# Altium integrated library AD DSP 16-Bit.IntLib: 146 symbols (part 5 of 7)
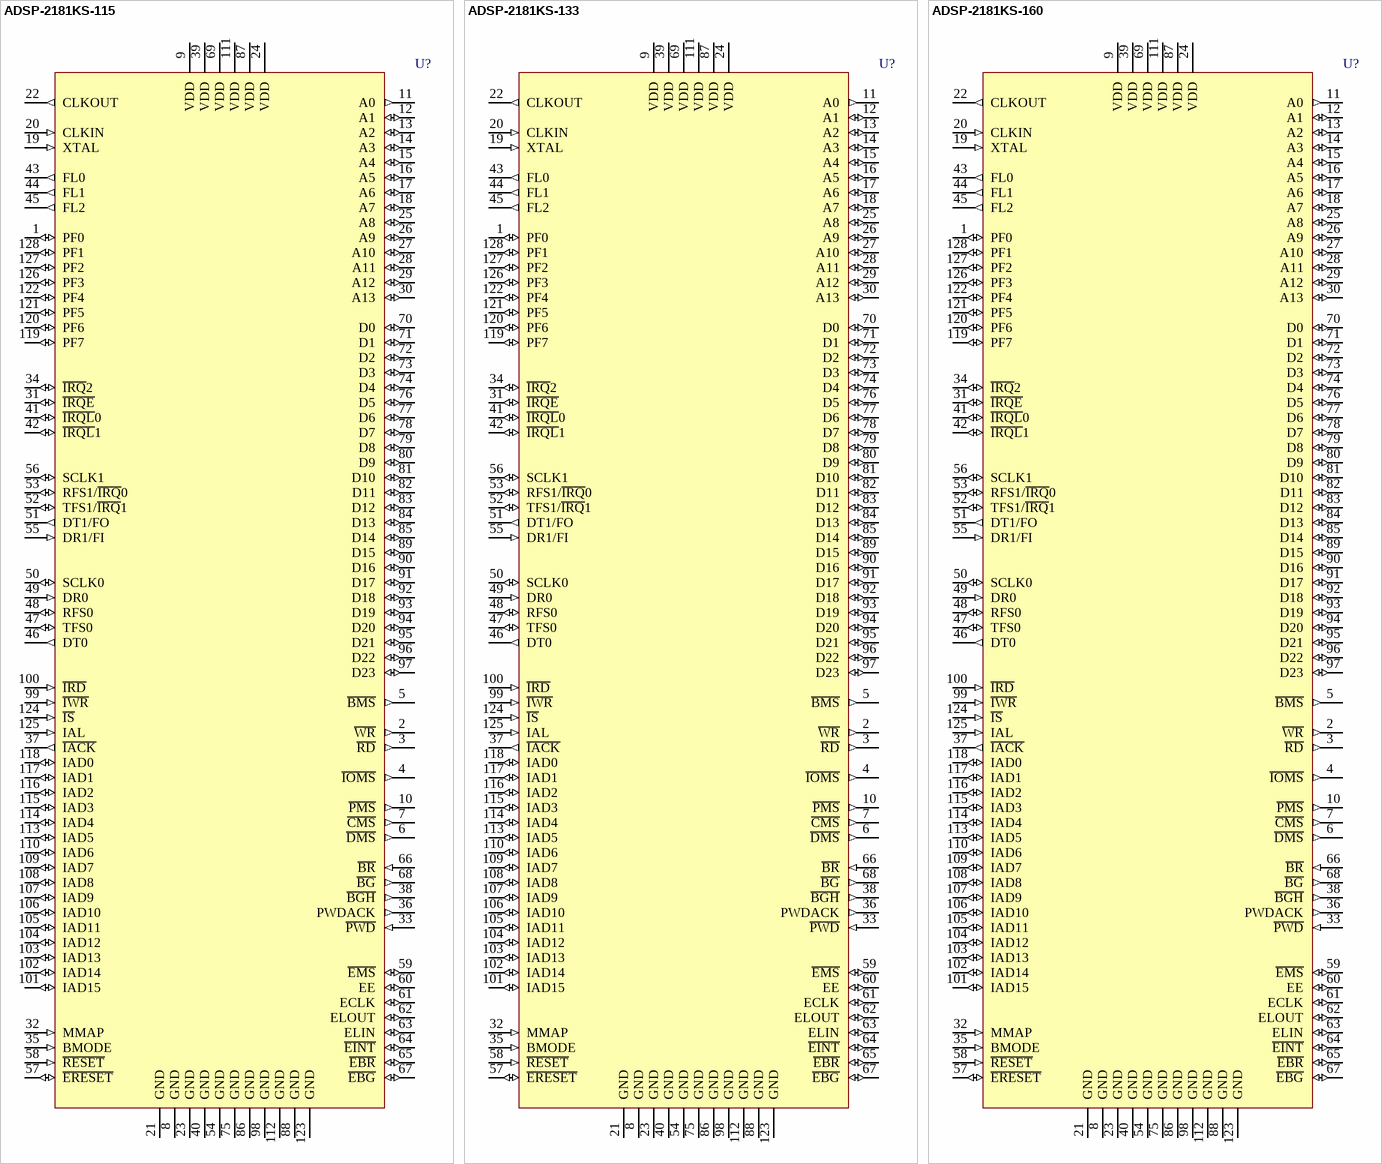
[diagram p49: symbols ADSP-2181KS-115 to ADSP-2181KS-160]

## ADSP-2181KS-115
designator U?
40 MIPS, 5V, 2 Serial Ports, Host Port, 80 KB RAM; Published: 24-Aug-2001; LatestRevisionDate: 13-Apr-2006; LatestRevisionNote: IPC-7351 Footprint Added.; DatasheetVersion: 1998; PackageVersion: 2000; PackageReference: S-128; Publisher: Altium Limited; PackageDescription: 128-Pin Quad Flat Pack 0.8 mm Pitch; Code_IPC: QFP80P3120X3120-128; ComponentLink1Description: Manufacturer Link; ComponentLink1URL: http://www.analog.com/; ComponentLink2Description: Datasheet; ComponentLink2URL: http://www.analog.com/UploadedFiles/Data_Sheets/505104853ADSP2181_d.pdf
footprint S-128_N (QFP, 128-Leads, Body 28x28mm, Pitch 0.8mm, IPC Medium Density)
footprint S-128_L (QFP, 128-Leads, Body 28x28mm, Pitch 0.8mm, IPC High Density)
footprint S-128_M (QFP, 128-Leads, Body 28x28mm, Pitch 0.8mm, IPC Low Density)
3D model 2181-S128 (128-Pin Quad Flat Pack 0.8 mm Pitch)
pins: 1 PF0 (io), 2 ~{WR} (out), 3 ~{RD} (out), 4 ~{IOMS} (out), 5 ~{BMS} (out), 6 ~{DMS} (out), 7 ~{CMS} (out), 8 GND (power), 9 VDD (power), 10 ~{PMS} (out), 11 A0 (out), 12 A1 (io), 13 A2 (io), 14 A3 (io), 15 A4 (io), 16 A5 (io), 17 A6 (io), 18 A7 (io), 19 XTAL (in), 20 CLKIN (in), 21 GND (power), 22 CLKOUT (out), 23 GND (power), 24 VDD (power), 25 A8 (io), 26 A9 (io), 27 A10 (io), 28 A11 (io), 29 A12 (io), 30 A13 (io), 31 ~{IRQE} (io), 32 MMAP (in), 33 ~{PWD} (in), 34 ~{IRQ}2 (io), 35 BMODE (in), 36 PWDACK (out), 37 ~{IACK} (out), 38 ~{BGH} (out), 39 VDD (power), 40 GND (power), 41 ~{IRQL}0 (io), 42 ~{IRQL}1 (io), 43 FL0 (out), 44 FL1 (out), 45 FL2 (out), 46 DT0 (out), 47 TFS0 (io), 48 RFS0 (io), 49 DR0 (in), 50 SCLK0 (io), 51 DT1/FO (out), 52 TFS1/~{IRQ}1 (io), 53 RFS1/~{IRQ}0 (io), 54 GND (power), 55 DR1/FI (in), 56 SCLK1 (io), 57 ~{ERESET} (io), 58 ~{RESET} (in), 59 ~{EMS} (io), 60 EE (io), 61 ECLK (io), 62 ELOUT (io), 63 ELIN (io), 64 ~{EINT} (io), 65 ~{EBR} (io), 66 ~{BR} (in), 67 ~{EBG} (io), 68 ~{BG} (out), 69 VDD (power), 70 D0 (io), 71 D1 (io), 72 D2 (io), 73 D3 (io), 74 D4 (io), 75 GND (power), 76 D5 (io), 77 D6 (io), 78 D7 (io), 79 D8 (io), 80 D9 (io), 81 D10 (io), 82 D11 (io), 83 D12 (io), 84 D13 (io), 85 D14 (io), 86 GND (power), 87 VDD (power), 88 GND (power), 89 D15 (io), 90 D16 (io), 91 D17 (io), 92 D18 (io), 93 D19 (io), 94 D20 (io), 95 D21 (io), 96 D22 (io), 97 D23 (io), 98 GND (power), 99 ~{IWR} (in), 100 ~{IRD} (in), 101 IAD15 (io), 102 IAD14 (io), 103 IAD13 (io), 104 IAD12 (io), 105 IAD11 (io), 106 IAD10 (io), 107 IAD9 (io), 108 IAD8 (io), 109 IAD7 (io), 110 IAD6 (io), 111 VDD (power), 112 GND (power), 113 IAD5 (io), 114 IAD4 (io), 115 IAD3 (io), 116 IAD2 (io), 117 IAD1 (io), 118 IAD0 (io), 119 PF7 (io), 120 PF6 (io), 121 PF5 (io), 122 PF4 (io), 123 GND (power), 124 ~{IS} (in), 125 IAL (in), 126 PF3 (io), 127 PF2 (io), 128 PF1 (io)

## ADSP-2181KS-133
designator U?
40 MIPS, 5V, 2 Serial Ports, Host Port, 80 KB RAM; Published: 24-Aug-2001; LatestRevisionDate: 13-Apr-2006; LatestRevisionNote: IPC-7351 Footprint Added.; DatasheetVersion: 1998; PackageVersion: 2000; PackageReference: S-128; Publisher: Altium Limited; PackageDescription: 128-Pin Quad Flat Pack 0.8 mm Pitch; Code_IPC: QFP80P3120X3120-128; ComponentLink1Description: Manufacturer Link; ComponentLink1URL: http://www.analog.com/; ComponentLink2Description: Datasheet; ComponentLink2URL: http://www.analog.com/UploadedFiles/Data_Sheets/505104853ADSP2181_d.pdf
footprint S-128_N (QFP, 128-Leads, Body 28x28mm, Pitch 0.8mm, IPC Medium Density)
footprint S-128_L (QFP, 128-Leads, Body 28x28mm, Pitch 0.8mm, IPC High Density)
footprint S-128_M (QFP, 128-Leads, Body 28x28mm, Pitch 0.8mm, IPC Low Density)
3D model 2181-S128 (128-Pin Quad Flat Pack 0.8 mm Pitch)
pins: 1 PF0 (io), 2 ~{WR} (out), 3 ~{RD} (out), 4 ~{IOMS} (out), 5 ~{BMS} (out), 6 ~{DMS} (out), 7 ~{CMS} (out), 8 GND (power), 9 VDD (power), 10 ~{PMS} (out), 11 A0 (out), 12 A1 (io), 13 A2 (io), 14 A3 (io), 15 A4 (io), 16 A5 (io), 17 A6 (io), 18 A7 (io), 19 XTAL (in), 20 CLKIN (in), 21 GND (power), 22 CLKOUT (out), 23 GND (power), 24 VDD (power), 25 A8 (io), 26 A9 (io), 27 A10 (io), 28 A11 (io), 29 A12 (io), 30 A13 (io), 31 ~{IRQE} (io), 32 MMAP (in), 33 ~{PWD} (in), 34 ~{IRQ}2 (io), 35 BMODE (in), 36 PWDACK (out), 37 ~{IACK} (out), 38 ~{BGH} (out), 39 VDD (power), 40 GND (power), 41 ~{IRQL}0 (io), 42 ~{IRQL}1 (io), 43 FL0 (out), 44 FL1 (out), 45 FL2 (out), 46 DT0 (out), 47 TFS0 (io), 48 RFS0 (io), 49 DR0 (in), 50 SCLK0 (io), 51 DT1/FO (out), 52 TFS1/~{IRQ}1 (io), 53 RFS1/~{IRQ}0 (io), 54 GND (power), 55 DR1/FI (in), 56 SCLK1 (io), 57 ~{ERESET} (io), 58 ~{RESET} (in), 59 ~{EMS} (io), 60 EE (io), 61 ECLK (io), 62 ELOUT (io), 63 ELIN (io), 64 ~{EINT} (io), 65 ~{EBR} (io), 66 ~{BR} (in), 67 ~{EBG} (io), 68 ~{BG} (out), 69 VDD (power), 70 D0 (io), 71 D1 (io), 72 D2 (io), 73 D3 (io), 74 D4 (io), 75 GND (power), 76 D5 (io), 77 D6 (io), 78 D7 (io), 79 D8 (io), 80 D9 (io), 81 D10 (io), 82 D11 (io), 83 D12 (io), 84 D13 (io), 85 D14 (io), 86 GND (power), 87 VDD (power), 88 GND (power), 89 D15 (io), 90 D16 (io), 91 D17 (io), 92 D18 (io), 93 D19 (io), 94 D20 (io), 95 D21 (io), 96 D22 (io), 97 D23 (io), 98 GND (power), 99 ~{IWR} (in), 100 ~{IRD} (in), 101 IAD15 (io), 102 IAD14 (io), 103 IAD13 (io), 104 IAD12 (io), 105 IAD11 (io), 106 IAD10 (io), 107 IAD9 (io), 108 IAD8 (io), 109 IAD7 (io), 110 IAD6 (io), 111 VDD (power), 112 GND (power), 113 IAD5 (io), 114 IAD4 (io), 115 IAD3 (io), 116 IAD2 (io), 117 IAD1 (io), 118 IAD0 (io), 119 PF7 (io), 120 PF6 (io), 121 PF5 (io), 122 PF4 (io), 123 GND (power), 124 ~{IS} (in), 125 IAL (in), 126 PF3 (io), 127 PF2 (io), 128 PF1 (io)

## ADSP-2181KS-160
designator U?
40 MIPS, 5V, 2 Serial Ports, Host Port, 80 KB RAM; Published: 24-Aug-2001; LatestRevisionDate: 13-Apr-2006; LatestRevisionNote: IPC-7351 Footprint Added.; DatasheetVersion: 1998; PackageVersion: 2000; PackageReference: S-128; Publisher: Altium Limited; PackageDescription: 128-Pin Quad Flat Pack 0.8 mm Pitch; Code_IPC: QFP80P3120X3120-128; ComponentLink1Description: Manufacturer Link; ComponentLink1URL: http://www.analog.com/; ComponentLink2Description: Datasheet; ComponentLink2URL: http://www.analog.com/UploadedFiles/Data_Sheets/505104853ADSP2181_d.pdf
footprint S-128_N (QFP, 128-Leads, Body 28x28mm, Pitch 0.8mm, IPC Medium Density)
footprint S-128_L (QFP, 128-Leads, Body 28x28mm, Pitch 0.8mm, IPC High Density)
footprint S-128_M (QFP, 128-Leads, Body 28x28mm, Pitch 0.8mm, IPC Low Density)
3D model 2181-S128 (128-Pin Quad Flat Pack 0.8 mm Pitch)
pins: 1 PF0 (io), 2 ~{WR} (out), 3 ~{RD} (out), 4 ~{IOMS} (out), 5 ~{BMS} (out), 6 ~{DMS} (out), 7 ~{CMS} (out), 8 GND (power), 9 VDD (power), 10 ~{PMS} (out), 11 A0 (out), 12 A1 (io), 13 A2 (io), 14 A3 (io), 15 A4 (io), 16 A5 (io), 17 A6 (io), 18 A7 (io), 19 XTAL (in), 20 CLKIN (in), 21 GND (power), 22 CLKOUT (out), 23 GND (power), 24 VDD (power), 25 A8 (io), 26 A9 (io), 27 A10 (io), 28 A11 (io), 29 A12 (io), 30 A13 (io), 31 ~{IRQE} (io), 32 MMAP (in), 33 ~{PWD} (in), 34 ~{IRQ}2 (io), 35 BMODE (in), 36 PWDACK (out), 37 ~{IACK} (out), 38 ~{BGH} (out), 39 VDD (power), 40 GND (power), 41 ~{IRQL}0 (io), 42 ~{IRQL}1 (io), 43 FL0 (out), 44 FL1 (out), 45 FL2 (out), 46 DT0 (out), 47 TFS0 (io), 48 RFS0 (io), 49 DR0 (in), 50 SCLK0 (io), 51 DT1/FO (out), 52 TFS1/~{IRQ}1 (io), 53 RFS1/~{IRQ}0 (io), 54 GND (power), 55 DR1/FI (in), 56 SCLK1 (io), 57 ~{ERESET} (io), 58 ~{RESET} (in), 59 ~{EMS} (io), 60 EE (io), 61 ECLK (io), 62 ELOUT (io), 63 ELIN (io), 64 ~{EINT} (io), 65 ~{EBR} (io), 66 ~{BR} (in), 67 ~{EBG} (io), 68 ~{BG} (out), 69 VDD (power), 70 D0 (io), 71 D1 (io), 72 D2 (io), 73 D3 (io), 74 D4 (io), 75 GND (power), 76 D5 (io), 77 D6 (io), 78 D7 (io), 79 D8 (io), 80 D9 (io), 81 D10 (io), 82 D11 (io), 83 D12 (io), 84 D13 (io), 85 D14 (io), 86 GND (power), 87 VDD (power), 88 GND (power), 89 D15 (io), 90 D16 (io), 91 D17 (io), 92 D18 (io), 93 D19 (io), 94 D20 (io), 95 D21 (io), 96 D22 (io), 97 D23 (io), 98 GND (power), 99 ~{IWR} (in), 100 ~{IRD} (in), 101 IAD15 (io), 102 IAD14 (io), 103 IAD13 (io), 104 IAD12 (io), 105 IAD11 (io), 106 IAD10 (io), 107 IAD9 (io), 108 IAD8 (io), 109 IAD7 (io), 110 IAD6 (io), 111 VDD (power), 112 GND (power), 113 IAD5 (io), 114 IAD4 (io), 115 IAD3 (io), 116 IAD2 (io), 117 IAD1 (io), 118 IAD0 (io), 119 PF7 (io), 120 PF6 (io), 121 PF5 (io), 122 PF4 (io), 123 GND (power), 124 ~{IS} (in), 125 IAL (in), 126 PF3 (io), 127 PF2 (io), 128 PF1 (io)

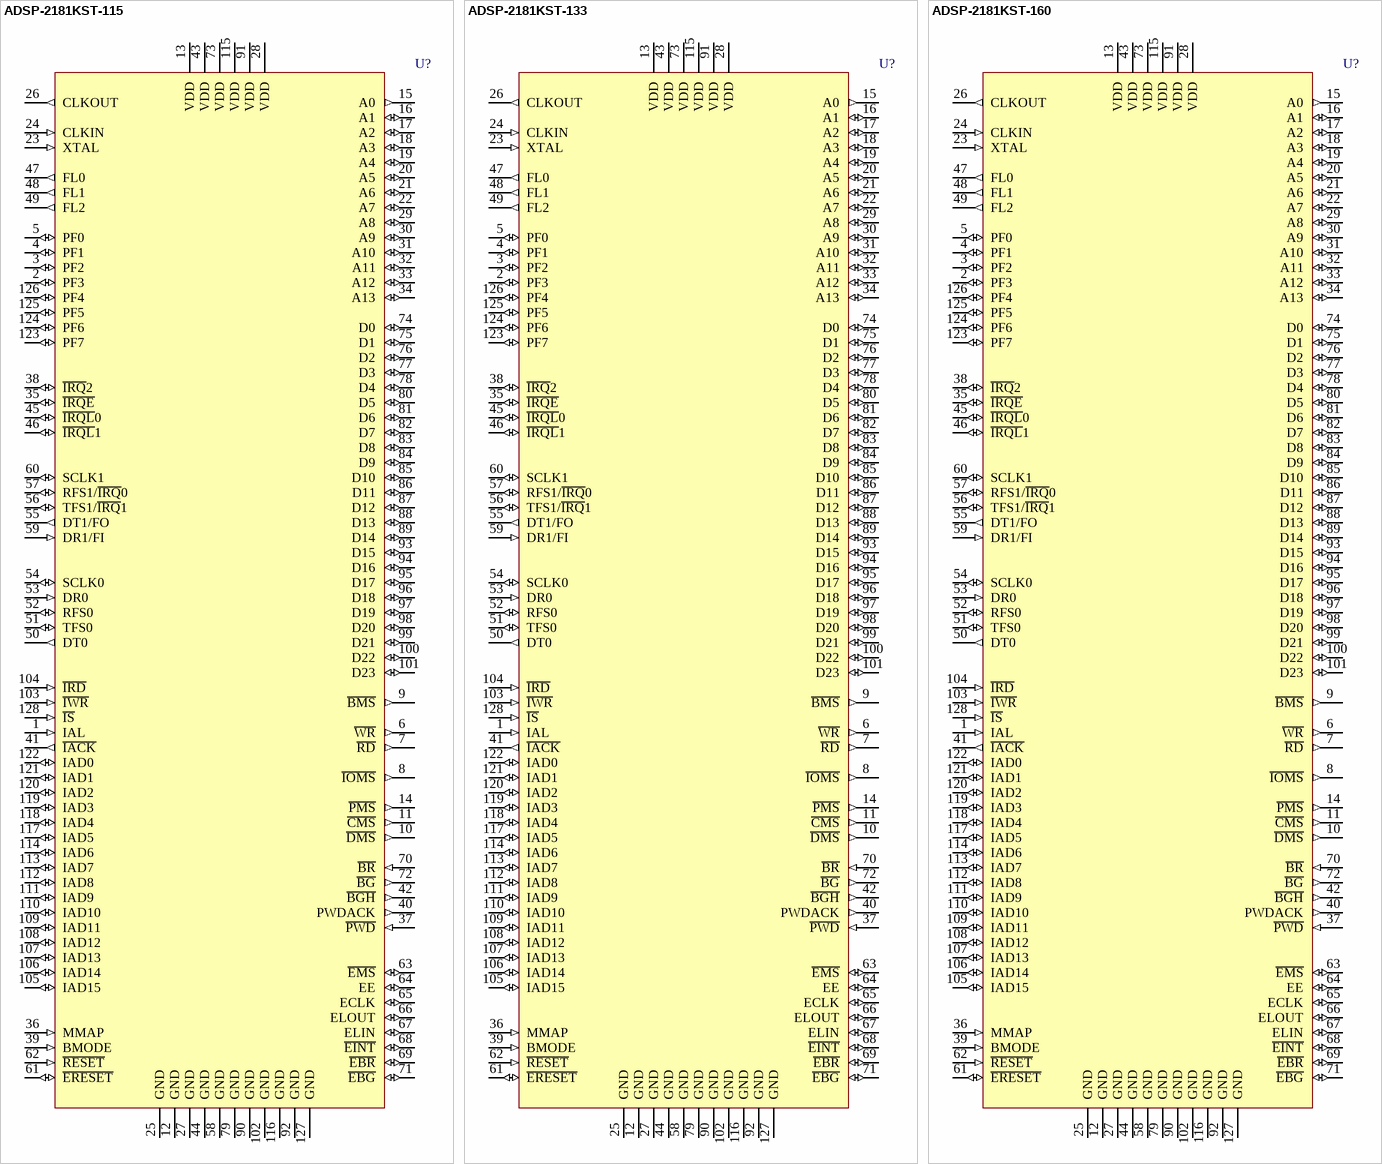
[diagram p27: symbols ADSP-2181KST-115 to ADSP-2181KST-160]

## ADSP-2181KST-115
designator U?
40 MIPS, 5V, 2 Serial Ports, Host Port, 80 KB RAM; Published: 24-Aug-2001; LatestRevisionDate: 13-Apr-2006; LatestRevisionNote: IPC-7351 Footprint Added.; DatasheetVersion: 1998; PackageVersion: 2000; PackageReference: ST-128; Publisher: Altium Limited; PackageDescription: 128-Pin Thin Quad Flat Pack Rectangular 0.5 mm Pitch; ComponentLink1Description: Manufacturer Link; ComponentLink1URL: http://www.analog.com/; ComponentLink2Description: Datasheet; ComponentLink2URL: http://www.analog.com/UploadedFiles/Data_Sheets/505104853ADSP2181_d.pdf
footprint ST-128_N (Thin QFP, 128-Leads, Body 20x14 mm, Pitch 0.5mm, IPC Medium Density)
footprint ST-128_L (Thin QFP, 128-Leads, Body 20x14 mm, Pitch 0.5mm, IPC High Density)
footprint ST-128_M (Thin QFP, 128-Leads, Body 20x14 mm, Pitch 0.5mm, IPC Low Density)
3D model 2181-ST128 (128-Pin Thin Quad Flat Pack Rectangular 0.5 mm Pitch)
pins: 1 IAL (in), 2 PF3 (io), 3 PF2 (io), 4 PF1 (io), 5 PF0 (io), 6 ~{WR} (out), 7 ~{RD} (out), 8 ~{IOMS} (out), 9 ~{BMS} (out), 10 ~{DMS} (out), 11 ~{CMS} (out), 12 GND (power), 13 VDD (power), 14 ~{PMS} (out), 15 A0 (out), 16 A1 (io), 17 A2 (io), 18 A3 (io), 19 A4 (io), 20 A5 (io), 21 A6 (io), 22 A7 (io), 23 XTAL (in), 24 CLKIN (in), 25 GND (power), 26 CLKOUT (out), 27 GND (power), 28 VDD (power), 29 A8 (io), 30 A9 (io), 31 A10 (io), 32 A11 (io), 33 A12 (io), 34 A13 (io), 35 ~{IRQE} (io), 36 MMAP (in), 37 ~{PWD} (in), 38 ~{IRQ}2 (io), 39 BMODE (in), 40 PWDACK (out), 41 ~{IACK} (out), 42 ~{BGH} (out), 43 VDD (power), 44 GND (power), 45 ~{IRQL}0 (io), 46 ~{IRQL}1 (io), 47 FL0 (out), 48 FL1 (out), 49 FL2 (out), 50 DT0 (out), 51 TFS0 (io), 52 RFS0 (io), 53 DR0 (in), 54 SCLK0 (io), 55 DT1/FO (out), 56 TFS1/~{IRQ}1 (io), 57 RFS1/~{IRQ}0 (io), 58 GND (power), 59 DR1/FI (in), 60 SCLK1 (io), 61 ~{ERESET} (io), 62 ~{RESET} (in), 63 ~{EMS} (io), 64 EE (io), 65 ECLK (io), 66 ELOUT (io), 67 ELIN (io), 68 ~{EINT} (io), 69 ~{EBR} (io), 70 ~{BR} (in), 71 ~{EBG} (io), 72 ~{BG} (out), 73 VDD (power), 74 D0 (io), 75 D1 (io), 76 D2 (io), 77 D3 (io), 78 D4 (io), 79 GND (power), 80 D5 (io), 81 D6 (io), 82 D7 (io), 83 D8 (io), 84 D9 (io), 85 D10 (io), 86 D11 (io), 87 D12 (io), 88 D13 (io), 89 D14 (io), 90 GND (power), 91 VDD (power), 92 GND (power), 93 D15 (io), 94 D16 (io), 95 D17 (io), 96 D18 (io), 97 D19 (io), 98 D20 (io), 99 D21 (io), 100 D22 (io), 101 D23 (io), 102 GND (power), 103 ~{IWR} (in), 104 ~{IRD} (in), 105 IAD15 (io), 106 IAD14 (io), 107 IAD13 (io), 108 IAD12 (io), 109 IAD11 (io), 110 IAD10 (io), 111 IAD9 (io), 112 IAD8 (io), 113 IAD7 (io), 114 IAD6 (io), 115 VDD (power), 116 GND (power), 117 IAD5 (io), 118 IAD4 (io), 119 IAD3 (io), 120 IAD2 (io), 121 IAD1 (io), 122 IAD0 (io), 123 PF7 (io), 124 PF6 (io), 125 PF5 (io), 126 PF4 (io), 127 GND (power), 128 ~{IS} (in)

## ADSP-2181KST-133
designator U?
40 MIPS, 5V, 2 Serial Ports, Host Port, 80 KB RAM; Published: 24-Aug-2001; LatestRevisionDate: 13-Apr-2006; LatestRevisionNote: IPC-7351 Footprint Added.; DatasheetVersion: 1998; PackageVersion: 2000; PackageReference: ST-128; Publisher: Altium Limited; PackageDescription: 128-Pin Thin Quad Flat Pack Rectangular 0.5 mm Pitch; ComponentLink1Description: Manufacturer Link; ComponentLink1URL: http://www.analog.com/; ComponentLink2Description: Datasheet; ComponentLink2URL: http://www.analog.com/UploadedFiles/Data_Sheets/505104853ADSP2181_d.pdf
footprint ST-128_N (Thin QFP, 128-Leads, Body 20x14 mm, Pitch 0.5mm, IPC Medium Density)
footprint ST-128_L (Thin QFP, 128-Leads, Body 20x14 mm, Pitch 0.5mm, IPC High Density)
footprint ST-128_M (Thin QFP, 128-Leads, Body 20x14 mm, Pitch 0.5mm, IPC Low Density)
3D model 2181-ST128 (128-Pin Thin Quad Flat Pack Rectangular 0.5 mm Pitch)
pins: 1 IAL (in), 2 PF3 (io), 3 PF2 (io), 4 PF1 (io), 5 PF0 (io), 6 ~{WR} (out), 7 ~{RD} (out), 8 ~{IOMS} (out), 9 ~{BMS} (out), 10 ~{DMS} (out), 11 ~{CMS} (out), 12 GND (power), 13 VDD (power), 14 ~{PMS} (out), 15 A0 (out), 16 A1 (io), 17 A2 (io), 18 A3 (io), 19 A4 (io), 20 A5 (io), 21 A6 (io), 22 A7 (io), 23 XTAL (in), 24 CLKIN (in), 25 GND (power), 26 CLKOUT (out), 27 GND (power), 28 VDD (power), 29 A8 (io), 30 A9 (io), 31 A10 (io), 32 A11 (io), 33 A12 (io), 34 A13 (io), 35 ~{IRQE} (io), 36 MMAP (in), 37 ~{PWD} (in), 38 ~{IRQ}2 (io), 39 BMODE (in), 40 PWDACK (out), 41 ~{IACK} (out), 42 ~{BGH} (out), 43 VDD (power), 44 GND (power), 45 ~{IRQL}0 (io), 46 ~{IRQL}1 (io), 47 FL0 (out), 48 FL1 (out), 49 FL2 (out), 50 DT0 (out), 51 TFS0 (io), 52 RFS0 (io), 53 DR0 (in), 54 SCLK0 (io), 55 DT1/FO (out), 56 TFS1/~{IRQ}1 (io), 57 RFS1/~{IRQ}0 (io), 58 GND (power), 59 DR1/FI (in), 60 SCLK1 (io), 61 ~{ERESET} (io), 62 ~{RESET} (in), 63 ~{EMS} (io), 64 EE (io), 65 ECLK (io), 66 ELOUT (io), 67 ELIN (io), 68 ~{EINT} (io), 69 ~{EBR} (io), 70 ~{BR} (in), 71 ~{EBG} (io), 72 ~{BG} (out), 73 VDD (power), 74 D0 (io), 75 D1 (io), 76 D2 (io), 77 D3 (io), 78 D4 (io), 79 GND (power), 80 D5 (io), 81 D6 (io), 82 D7 (io), 83 D8 (io), 84 D9 (io), 85 D10 (io), 86 D11 (io), 87 D12 (io), 88 D13 (io), 89 D14 (io), 90 GND (power), 91 VDD (power), 92 GND (power), 93 D15 (io), 94 D16 (io), 95 D17 (io), 96 D18 (io), 97 D19 (io), 98 D20 (io), 99 D21 (io), 100 D22 (io), 101 D23 (io), 102 GND (power), 103 ~{IWR} (in), 104 ~{IRD} (in), 105 IAD15 (io), 106 IAD14 (io), 107 IAD13 (io), 108 IAD12 (io), 109 IAD11 (io), 110 IAD10 (io), 111 IAD9 (io), 112 IAD8 (io), 113 IAD7 (io), 114 IAD6 (io), 115 VDD (power), 116 GND (power), 117 IAD5 (io), 118 IAD4 (io), 119 IAD3 (io), 120 IAD2 (io), 121 IAD1 (io), 122 IAD0 (io), 123 PF7 (io), 124 PF6 (io), 125 PF5 (io), 126 PF4 (io), 127 GND (power), 128 ~{IS} (in)

## ADSP-2181KST-160
designator U?
40 MIPS, 5V, 2 Serial Ports, Host Port, 80 KB RAM; Published: 24-Aug-2001; LatestRevisionDate: 13-Apr-2006; LatestRevisionNote: IPC-7351 Footprint Added.; DatasheetVersion: 1998; PackageVersion: 2000; PackageReference: ST-128; Publisher: Altium Limited; PackageDescription: 128-Pin Thin Quad Flat Pack Rectangular 0.5 mm Pitch; ComponentLink1Description: Manufacturer Link; ComponentLink1URL: http://www.analog.com/; ComponentLink2Description: Datasheet; ComponentLink2URL: http://www.analog.com/UploadedFiles/Data_Sheets/505104853ADSP2181_d.pdf
footprint ST-128_N (Thin QFP, 128-Leads, Body 20x14 mm, Pitch 0.5mm, IPC Medium Density)
footprint ST-128_L (Thin QFP, 128-Leads, Body 20x14 mm, Pitch 0.5mm, IPC High Density)
footprint ST-128_M (Thin QFP, 128-Leads, Body 20x14 mm, Pitch 0.5mm, IPC Low Density)
3D model 2181-ST128 (128-Pin Thin Quad Flat Pack Rectangular 0.5 mm Pitch)
pins: 1 IAL (in), 2 PF3 (io), 3 PF2 (io), 4 PF1 (io), 5 PF0 (io), 6 ~{WR} (out), 7 ~{RD} (out), 8 ~{IOMS} (out), 9 ~{BMS} (out), 10 ~{DMS} (out), 11 ~{CMS} (out), 12 GND (power), 13 VDD (power), 14 ~{PMS} (out), 15 A0 (out), 16 A1 (io), 17 A2 (io), 18 A3 (io), 19 A4 (io), 20 A5 (io), 21 A6 (io), 22 A7 (io), 23 XTAL (in), 24 CLKIN (in), 25 GND (power), 26 CLKOUT (out), 27 GND (power), 28 VDD (power), 29 A8 (io), 30 A9 (io), 31 A10 (io), 32 A11 (io), 33 A12 (io), 34 A13 (io), 35 ~{IRQE} (io), 36 MMAP (in), 37 ~{PWD} (in), 38 ~{IRQ}2 (io), 39 BMODE (in), 40 PWDACK (out), 41 ~{IACK} (out), 42 ~{BGH} (out), 43 VDD (power), 44 GND (power), 45 ~{IRQL}0 (io), 46 ~{IRQL}1 (io), 47 FL0 (out), 48 FL1 (out), 49 FL2 (out), 50 DT0 (out), 51 TFS0 (io), 52 RFS0 (io), 53 DR0 (in), 54 SCLK0 (io), 55 DT1/FO (out), 56 TFS1/~{IRQ}1 (io), 57 RFS1/~{IRQ}0 (io), 58 GND (power), 59 DR1/FI (in), 60 SCLK1 (io), 61 ~{ERESET} (io), 62 ~{RESET} (in), 63 ~{EMS} (io), 64 EE (io), 65 ECLK (io), 66 ELOUT (io), 67 ELIN (io), 68 ~{EINT} (io), 69 ~{EBR} (io), 70 ~{BR} (in), 71 ~{EBG} (io), 72 ~{BG} (out), 73 VDD (power), 74 D0 (io), 75 D1 (io), 76 D2 (io), 77 D3 (io), 78 D4 (io), 79 GND (power), 80 D5 (io), 81 D6 (io), 82 D7 (io), 83 D8 (io), 84 D9 (io), 85 D10 (io), 86 D11 (io), 87 D12 (io), 88 D13 (io), 89 D14 (io), 90 GND (power), 91 VDD (power), 92 GND (power), 93 D15 (io), 94 D16 (io), 95 D17 (io), 96 D18 (io), 97 D19 (io), 98 D20 (io), 99 D21 (io), 100 D22 (io), 101 D23 (io), 102 GND (power), 103 ~{IWR} (in), 104 ~{IRD} (in), 105 IAD15 (io), 106 IAD14 (io), 107 IAD13 (io), 108 IAD12 (io), 109 IAD11 (io), 110 IAD10 (io), 111 IAD9 (io), 112 IAD8 (io), 113 IAD7 (io), 114 IAD6 (io), 115 VDD (power), 116 GND (power), 117 IAD5 (io), 118 IAD4 (io), 119 IAD3 (io), 120 IAD2 (io), 121 IAD1 (io), 122 IAD0 (io), 123 PF7 (io), 124 PF6 (io), 125 PF5 (io), 126 PF4 (io), 127 GND (power), 128 ~{IS} (in)

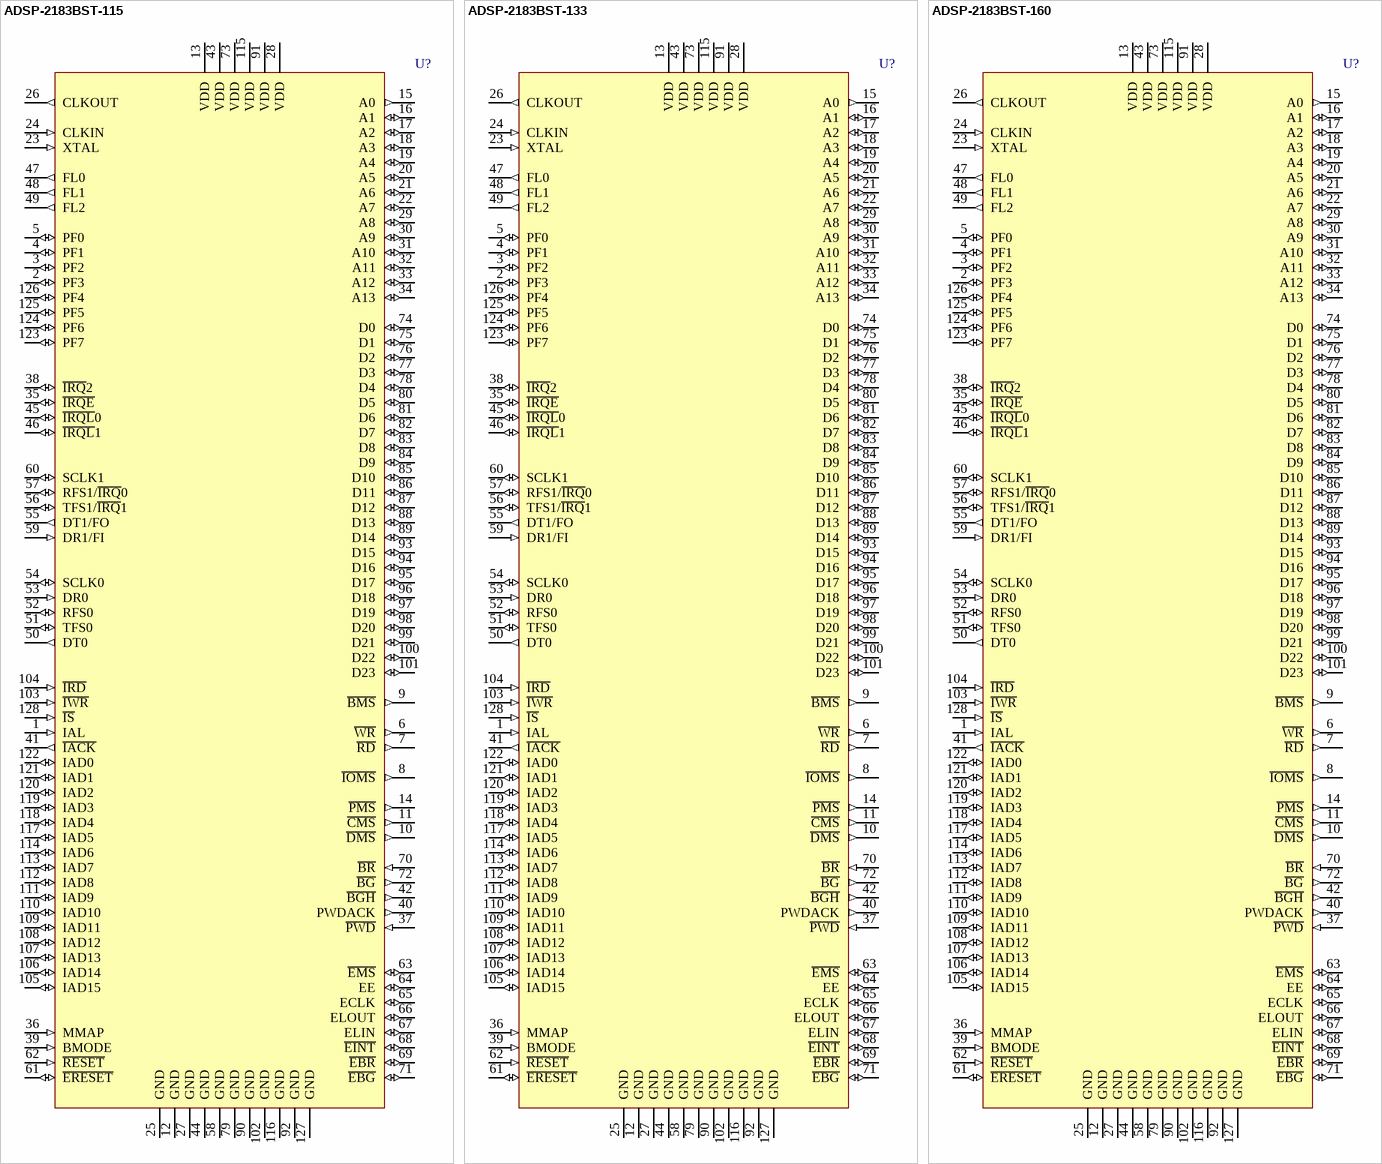
[diagram p28: symbols ADSP-2183BST-115 to ADSP-2183BST-160]

## ADSP-2183BST-115
designator U?
52 MIPS, 3.3V, 2 Serial Ports, Host Port, 80 KB RAM; Published: 24-Aug-2001; LatestRevisionDate: 13-Apr-2006; LatestRevisionNote: IPC-7351 Footprint Added.; DatasheetVersion: 2000; PackageVersion: 2000; PackageReference: ST-128; Publisher: Altium Limited; PackageDescription: 128-Pin Thin Quad Flat Pack Rectangular 0.5 mm Pitch; ComponentLink1Description: Manufacturer Link; ComponentLink1URL: http://www.analog.com/; ComponentLink2Description: Datasheet; ComponentLink2URL: http://www.analog.com/UploadedFiles/Data_Sheets/80782991212661535238810ADSP_2183_c.pdf
footprint ST-128_N (Thin QFP, 128-Leads, Body 20x14 mm, Pitch 0.5mm, IPC Medium Density)
footprint ST-128_L (Thin QFP, 128-Leads, Body 20x14 mm, Pitch 0.5mm, IPC High Density)
footprint ST-128_M (Thin QFP, 128-Leads, Body 20x14 mm, Pitch 0.5mm, IPC Low Density)
3D model 2183-ST128 (128-Pin Thin Quad Flat Pack Rectangular 0.5 mm Pitch)
pins: 1 IAL (in), 2 PF3 (io), 3 PF2 (io), 4 PF1 (io), 5 PF0 (io), 6 ~{WR} (out), 7 ~{RD} (out), 8 ~{IOMS} (out), 9 ~{BMS} (out), 10 ~{DMS} (out), 11 ~{CMS} (out), 12 GND (power), 13 VDD (power), 14 ~{PMS} (out), 15 A0 (out), 16 A1 (io), 17 A2 (io), 18 A3 (io), 19 A4 (io), 20 A5 (io), 21 A6 (io), 22 A7 (io), 23 XTAL (in), 24 CLKIN (in), 25 GND (power), 26 CLKOUT (out), 27 GND (power), 28 VDD (power), 29 A8 (io), 30 A9 (io), 31 A10 (io), 32 A11 (io), 33 A12 (io), 34 A13 (io), 35 ~{IRQE} (io), 36 MMAP (in), 37 ~{PWD} (in), 38 ~{IRQ}2 (io), 39 BMODE (in), 40 PWDACK (out), 41 ~{IACK} (out), 42 ~{BGH} (out), 43 VDD (power), 44 GND (power), 45 ~{IRQL}0 (io), 46 ~{IRQL}1 (io), 47 FL0 (out), 48 FL1 (out), 49 FL2 (out), 50 DT0 (out), 51 TFS0 (io), 52 RFS0 (io), 53 DR0 (in), 54 SCLK0 (io), 55 DT1/FO (out), 56 TFS1/~{IRQ}1 (io), 57 RFS1/~{IRQ}0 (io), 58 GND (power), 59 DR1/FI (in), 60 SCLK1 (io), 61 ~{ERESET} (io), 62 ~{RESET} (in), 63 ~{EMS} (io), 64 EE (io), 65 ECLK (io), 66 ELOUT (io), 67 ELIN (io), 68 ~{EINT} (io), 69 ~{EBR} (io), 70 ~{BR} (in), 71 ~{EBG} (io), 72 ~{BG} (out), 73 VDD (power), 74 D0 (io), 75 D1 (io), 76 D2 (io), 77 D3 (io), 78 D4 (io), 79 GND (power), 80 D5 (io), 81 D6 (io), 82 D7 (io), 83 D8 (io), 84 D9 (io), 85 D10 (io), 86 D11 (io), 87 D12 (io), 88 D13 (io), 89 D14 (io), 90 GND (power), 91 VDD (power), 92 GND (power), 93 D15 (io), 94 D16 (io), 95 D17 (io), 96 D18 (io), 97 D19 (io), 98 D20 (io), 99 D21 (io), 100 D22 (io), 101 D23 (io), 102 GND (power), 103 ~{IWR} (in), 104 ~{IRD} (in), 105 IAD15 (io), 106 IAD14 (io), 107 IAD13 (io), 108 IAD12 (io), 109 IAD11 (io), 110 IAD10 (io), 111 IAD9 (io), 112 IAD8 (io), 113 IAD7 (io), 114 IAD6 (io), 115 VDD (power), 116 GND (power), 117 IAD5 (io), 118 IAD4 (io), 119 IAD3 (io), 120 IAD2 (io), 121 IAD1 (io), 122 IAD0 (io), 123 PF7 (io), 124 PF6 (io), 125 PF5 (io), 126 PF4 (io), 127 GND (power), 128 ~{IS} (in)

## ADSP-2183BST-133
designator U?
52 MIPS, 3.3V, 2 Serial Ports, Host Port, 80 KB RAM; Published: 24-Aug-2001; LatestRevisionDate: 13-Apr-2006; LatestRevisionNote: IPC-7351 Footprint Added.; DatasheetVersion: 2000; PackageVersion: 2000; PackageReference: ST-128; Publisher: Altium Limited; PackageDescription: 128-Pin Thin Quad Flat Pack Rectangular 0.5 mm Pitch; ComponentLink1Description: Manufacturer Link; ComponentLink1URL: http://www.analog.com/; ComponentLink2Description: Datasheet; ComponentLink2URL: http://www.analog.com/UploadedFiles/Data_Sheets/80782991212661535238810ADSP_2183_c.pdf
footprint ST-128_N (Thin QFP, 128-Leads, Body 20x14 mm, Pitch 0.5mm, IPC Medium Density)
footprint ST-128_L (Thin QFP, 128-Leads, Body 20x14 mm, Pitch 0.5mm, IPC High Density)
footprint ST-128_M (Thin QFP, 128-Leads, Body 20x14 mm, Pitch 0.5mm, IPC Low Density)
3D model 2183-ST128 (128-Pin Thin Quad Flat Pack Rectangular 0.5 mm Pitch)
pins: 1 IAL (in), 2 PF3 (io), 3 PF2 (io), 4 PF1 (io), 5 PF0 (io), 6 ~{WR} (out), 7 ~{RD} (out), 8 ~{IOMS} (out), 9 ~{BMS} (out), 10 ~{DMS} (out), 11 ~{CMS} (out), 12 GND (power), 13 VDD (power), 14 ~{PMS} (out), 15 A0 (out), 16 A1 (io), 17 A2 (io), 18 A3 (io), 19 A4 (io), 20 A5 (io), 21 A6 (io), 22 A7 (io), 23 XTAL (in), 24 CLKIN (in), 25 GND (power), 26 CLKOUT (out), 27 GND (power), 28 VDD (power), 29 A8 (io), 30 A9 (io), 31 A10 (io), 32 A11 (io), 33 A12 (io), 34 A13 (io), 35 ~{IRQE} (io), 36 MMAP (in), 37 ~{PWD} (in), 38 ~{IRQ}2 (io), 39 BMODE (in), 40 PWDACK (out), 41 ~{IACK} (out), 42 ~{BGH} (out), 43 VDD (power), 44 GND (power), 45 ~{IRQL}0 (io), 46 ~{IRQL}1 (io), 47 FL0 (out), 48 FL1 (out), 49 FL2 (out), 50 DT0 (out), 51 TFS0 (io), 52 RFS0 (io), 53 DR0 (in), 54 SCLK0 (io), 55 DT1/FO (out), 56 TFS1/~{IRQ}1 (io), 57 RFS1/~{IRQ}0 (io), 58 GND (power), 59 DR1/FI (in), 60 SCLK1 (io), 61 ~{ERESET} (io), 62 ~{RESET} (in), 63 ~{EMS} (io), 64 EE (io), 65 ECLK (io), 66 ELOUT (io), 67 ELIN (io), 68 ~{EINT} (io), 69 ~{EBR} (io), 70 ~{BR} (in), 71 ~{EBG} (io), 72 ~{BG} (out), 73 VDD (power), 74 D0 (io), 75 D1 (io), 76 D2 (io), 77 D3 (io), 78 D4 (io), 79 GND (power), 80 D5 (io), 81 D6 (io), 82 D7 (io), 83 D8 (io), 84 D9 (io), 85 D10 (io), 86 D11 (io), 87 D12 (io), 88 D13 (io), 89 D14 (io), 90 GND (power), 91 VDD (power), 92 GND (power), 93 D15 (io), 94 D16 (io), 95 D17 (io), 96 D18 (io), 97 D19 (io), 98 D20 (io), 99 D21 (io), 100 D22 (io), 101 D23 (io), 102 GND (power), 103 ~{IWR} (in), 104 ~{IRD} (in), 105 IAD15 (io), 106 IAD14 (io), 107 IAD13 (io), 108 IAD12 (io), 109 IAD11 (io), 110 IAD10 (io), 111 IAD9 (io), 112 IAD8 (io), 113 IAD7 (io), 114 IAD6 (io), 115 VDD (power), 116 GND (power), 117 IAD5 (io), 118 IAD4 (io), 119 IAD3 (io), 120 IAD2 (io), 121 IAD1 (io), 122 IAD0 (io), 123 PF7 (io), 124 PF6 (io), 125 PF5 (io), 126 PF4 (io), 127 GND (power), 128 ~{IS} (in)

## ADSP-2183BST-160
designator U?
52 MIPS, 3.3V, 2 Serial Ports, Host Port, 80 KB RAM; Published: 24-Aug-2001; LatestRevisionDate: 13-Apr-2006; LatestRevisionNote: IPC-7351 Footprint Added.; DatasheetVersion: 2000; PackageVersion: 2000; PackageReference: ST-128; Publisher: Altium Limited; PackageDescription: 128-Pin Thin Quad Flat Pack Rectangular 0.5 mm Pitch; ComponentLink1Description: Manufacturer Link; ComponentLink1URL: http://www.analog.com/; ComponentLink2Description: Datasheet; ComponentLink2URL: http://www.analog.com/UploadedFiles/Data_Sheets/80782991212661535238810ADSP_2183_c.pdf
footprint ST-128_N (Thin QFP, 128-Leads, Body 20x14 mm, Pitch 0.5mm, IPC Medium Density)
footprint ST-128_L (Thin QFP, 128-Leads, Body 20x14 mm, Pitch 0.5mm, IPC High Density)
footprint ST-128_M (Thin QFP, 128-Leads, Body 20x14 mm, Pitch 0.5mm, IPC Low Density)
3D model 2183-ST128 (128-Pin Thin Quad Flat Pack Rectangular 0.5 mm Pitch)
pins: 1 IAL (in), 2 PF3 (io), 3 PF2 (io), 4 PF1 (io), 5 PF0 (io), 6 ~{WR} (out), 7 ~{RD} (out), 8 ~{IOMS} (out), 9 ~{BMS} (out), 10 ~{DMS} (out), 11 ~{CMS} (out), 12 GND (power), 13 VDD (power), 14 ~{PMS} (out), 15 A0 (out), 16 A1 (io), 17 A2 (io), 18 A3 (io), 19 A4 (io), 20 A5 (io), 21 A6 (io), 22 A7 (io), 23 XTAL (in), 24 CLKIN (in), 25 GND (power), 26 CLKOUT (out), 27 GND (power), 28 VDD (power), 29 A8 (io), 30 A9 (io), 31 A10 (io), 32 A11 (io), 33 A12 (io), 34 A13 (io), 35 ~{IRQE} (io), 36 MMAP (in), 37 ~{PWD} (in), 38 ~{IRQ}2 (io), 39 BMODE (in), 40 PWDACK (out), 41 ~{IACK} (out), 42 ~{BGH} (out), 43 VDD (power), 44 GND (power), 45 ~{IRQL}0 (io), 46 ~{IRQL}1 (io), 47 FL0 (out), 48 FL1 (out), 49 FL2 (out), 50 DT0 (out), 51 TFS0 (io), 52 RFS0 (io), 53 DR0 (in), 54 SCLK0 (io), 55 DT1/FO (out), 56 TFS1/~{IRQ}1 (io), 57 RFS1/~{IRQ}0 (io), 58 GND (power), 59 DR1/FI (in), 60 SCLK1 (io), 61 ~{ERESET} (io), 62 ~{RESET} (in), 63 ~{EMS} (io), 64 EE (io), 65 ECLK (io), 66 ELOUT (io), 67 ELIN (io), 68 ~{EINT} (io), 69 ~{EBR} (io), 70 ~{BR} (in), 71 ~{EBG} (io), 72 ~{BG} (out), 73 VDD (power), 74 D0 (io), 75 D1 (io), 76 D2 (io), 77 D3 (io), 78 D4 (io), 79 GND (power), 80 D5 (io), 81 D6 (io), 82 D7 (io), 83 D8 (io), 84 D9 (io), 85 D10 (io), 86 D11 (io), 87 D12 (io), 88 D13 (io), 89 D14 (io), 90 GND (power), 91 VDD (power), 92 GND (power), 93 D15 (io), 94 D16 (io), 95 D17 (io), 96 D18 (io), 97 D19 (io), 98 D20 (io), 99 D21 (io), 100 D22 (io), 101 D23 (io), 102 GND (power), 103 ~{IWR} (in), 104 ~{IRD} (in), 105 IAD15 (io), 106 IAD14 (io), 107 IAD13 (io), 108 IAD12 (io), 109 IAD11 (io), 110 IAD10 (io), 111 IAD9 (io), 112 IAD8 (io), 113 IAD7 (io), 114 IAD6 (io), 115 VDD (power), 116 GND (power), 117 IAD5 (io), 118 IAD4 (io), 119 IAD3 (io), 120 IAD2 (io), 121 IAD1 (io), 122 IAD0 (io), 123 PF7 (io), 124 PF6 (io), 125 PF5 (io), 126 PF4 (io), 127 GND (power), 128 ~{IS} (in)

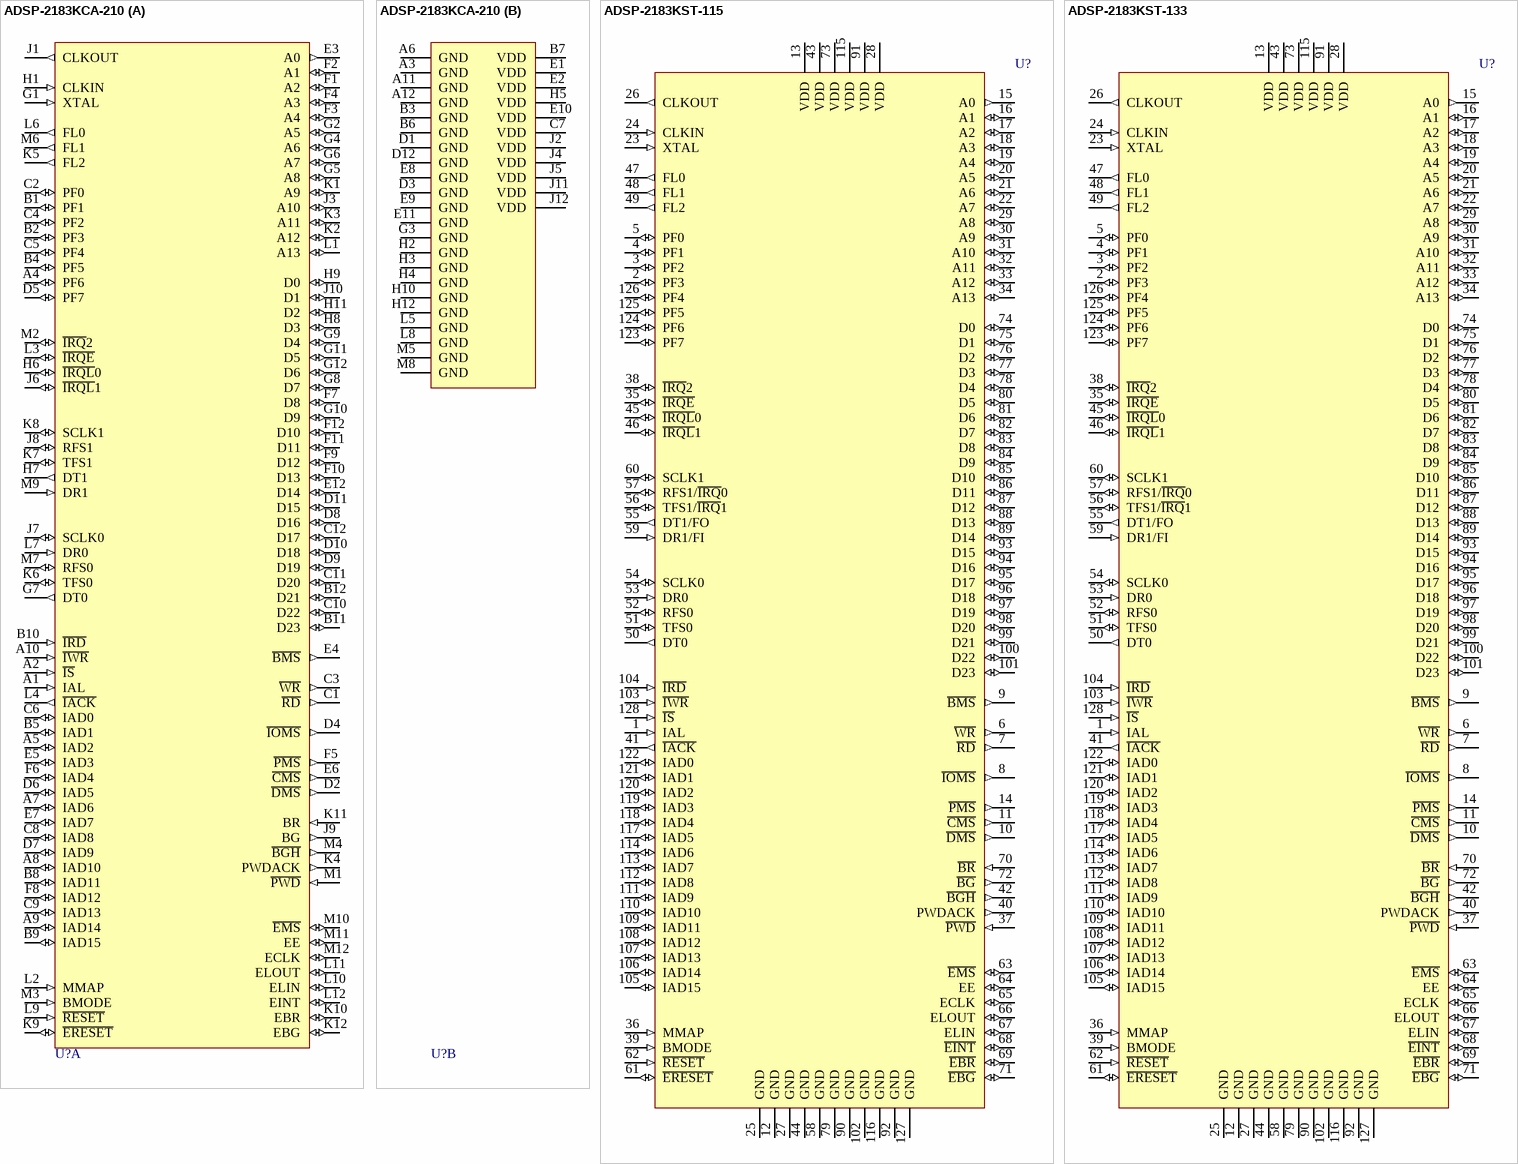
[diagram p29: symbols ADSP-2183KCA-210 to ADSP-2183KST-133]

## ADSP-2183KCA-210
designator U?
52 MIPS, 3.3V, 2 Serial Ports, Host Port, 80 KB RAM; Published: 24-Aug-2001; LatestRevisionDate: 13-Apr-2006; LatestRevisionNote: IPC-7351 Footprint Added.; DatasheetVersion: 2000; PackageVersion: May-2000; PackageReference: CA-144; Publisher: Altium Limited; PackageDescription: 144-Ball Ball Grid Array 0.8 mm Pitch; ComponentLink1Description: Manufacturer Link; ComponentLink1URL: http://www.analog.com/; ComponentLink2Description: Datasheet; ComponentLink2URL: http://www.analog.com/UploadedFiles/Data_Sheets/80782991212661535238810ADSP_2183_c.pdf
footprint CA-144 (BGA, 144-Leads, Body 10x10mm, Pitch 0.8mm)
3D model 2183-CA-144 (144-Ball Ball Grid Array 0.8 mm Pitch)
part A pins: A1 IAL (in), A2 ~{IS} (in), A4 PF6 (io), A5 IAD2 (io), A7 IAD6 (io), A8 IAD10 (io), A9 IAD14 (io), A10 ~{IWR} (in), B1 PF1 (io), B2 PF3 (io), B4 PF5 (io), B5 IAD1 (io), B8 IAD11 (io), B9 IAD15 (io), B10 ~{IRD} (in), B11 D23 (io), B12 D21 (io), C1 ~{RD} (out), C2 PF0 (io), C3 ~{WR} (out), C4 PF2 (io), C5 PF4 (io), C6 IAD0 (io), C8 IAD8 (io), C9 IAD13 (io), C10 D22 (io), C11 D20 (io), C12 D17 (io), D2 ~{DMS} (out), D4 ~{IOMS} (out), D5 PF7 (io), D6 IAD5 (io), D7 IAD9 (io), D8 D16 (io), D9 D19 (io), D10 D18 (io), D11 D15 (io), E3 A0 (out), E4 ~{BMS} (out), E5 IAD3 (io), E6 ~{CMS} (out), E7 IAD7 (io), E12 D14 (io), F1 A2 (io), F2 A1 (io), F3 A4 (io), F4 A3 (io), F5 ~{PMS} (out), F6 IAD4 (io), F7 D8 (io), F8 IAD12 (io), F9 D12 (io), F10 D13 (io), F11 D11 (io), F12 D10 (io), G1 XTAL (in), G2 A5 (io), G4 A6 (io), G5 A8 (io), G6 A7 (io), G7 DT0 (out), G8 D7 (io), G9 D4 (io), G10 D9 (io), G11 D5 (io), G12 D6 (io), H1 CLKIN (in), H6 ~{IRQL}0 (io), H7 DT1 (out), H8 D3 (io), H9 D0 (io), H11 D2 (io), J1 CLKOUT (out), J3 A10 (io), J6 ~{IRQL}1 (io), J7 SCLK0 (io), J8 RFS1 (io), J9 BG (out), J10 D1 (io), K1 A9 (io), K2 A12 (io), K3 A11 (io), K4 PWDACK (out), K5 FL2 (out), K6 TFS0 (io), K7 TFS1 (io), K8 SCLK1 (io), K9 ~{ERESET} (io), K10 EBR (io), K11 BR (in), K12 EBG (io), L1 A13 (io), L2 MMAP (in), L3 ~{IRQE} (io), L4 ~{IACK} (out), L6 FL0 (out), L7 DR0 (in), L9 ~{RESET} (in), L10 ELIN (io), L11 ELOUT (io), L12 EINT (io), M1 ~{PWD} (in), M2 ~{IRQ}2 (io), M3 BMODE (in), M4 ~{BGH} (out), M6 FL1 (out), M7 RFS0 (io), M9 DR1 (in), M10 ~{EMS} (io), M11 EE (io), M12 ECLK (io)
part B pins: A3 GND (power), A6 GND (power), A11 GND (power), A12 GND (power), B3 GND (power), B6 GND (power), B7 VDD (power), C7 VDD (power), D1 GND (power), D3 GND (power), D12 GND (power), E1 VDD (power), E2 VDD (power), E8 GND (power), E9 GND (power), E10 VDD (power), E11 GND (power), G3 GND (power), H2 GND (power), H3 GND (power), H4 GND (power), H5 VDD (power), H10 GND (power), H12 GND (power), J2 VDD (power), J4 VDD (power), J5 VDD (power), J11 VDD (power), J12 VDD (power), L5 GND (power), L8 GND (power), M5 GND (power), M8 GND (power)

## ADSP-2183KST-115
designator U?
52 MIPS, 3.3V, 2 Serial Ports, Host Port, 80 KB RAM; Published: 24-Aug-2001; LatestRevisionDate: 13-Apr-2006; LatestRevisionNote: IPC-7351 Footprint Added.; DatasheetVersion: 2000; PackageVersion: 2000; PackageReference: ST-128; Publisher: Altium Limited; PackageDescription: 128-Pin Thin Quad Flat Pack Rectangular 0.5 mm Pitch; ComponentLink1Description: Manufacturer Link; ComponentLink1URL: http://www.analog.com/; ComponentLink2Description: Datasheet; ComponentLink2URL: http://www.analog.com/UploadedFiles/Data_Sheets/80782991212661535238810ADSP_2183_c.pdf
footprint ST-128_N (Thin QFP, 128-Leads, Body 20x14 mm, Pitch 0.5mm, IPC Medium Density)
footprint ST-128_L (Thin QFP, 128-Leads, Body 20x14 mm, Pitch 0.5mm, IPC High Density)
footprint ST-128_M (Thin QFP, 128-Leads, Body 20x14 mm, Pitch 0.5mm, IPC Low Density)
3D model 2183-ST128 (128-Pin Thin Quad Flat Pack Rectangular 0.5 mm Pitch)
pins: 1 IAL (in), 2 PF3 (io), 3 PF2 (io), 4 PF1 (io), 5 PF0 (io), 6 ~{WR} (out), 7 ~{RD} (out), 8 ~{IOMS} (out), 9 ~{BMS} (out), 10 ~{DMS} (out), 11 ~{CMS} (out), 12 GND (power), 13 VDD (power), 14 ~{PMS} (out), 15 A0 (out), 16 A1 (io), 17 A2 (io), 18 A3 (io), 19 A4 (io), 20 A5 (io), 21 A6 (io), 22 A7 (io), 23 XTAL (in), 24 CLKIN (in), 25 GND (power), 26 CLKOUT (out), 27 GND (power), 28 VDD (power), 29 A8 (io), 30 A9 (io), 31 A10 (io), 32 A11 (io), 33 A12 (io), 34 A13 (io), 35 ~{IRQE} (io), 36 MMAP (in), 37 ~{PWD} (in), 38 ~{IRQ}2 (io), 39 BMODE (in), 40 PWDACK (out), 41 ~{IACK} (out), 42 ~{BGH} (out), 43 VDD (power), 44 GND (power), 45 ~{IRQL}0 (io), 46 ~{IRQL}1 (io), 47 FL0 (out), 48 FL1 (out), 49 FL2 (out), 50 DT0 (out), 51 TFS0 (io), 52 RFS0 (io), 53 DR0 (in), 54 SCLK0 (io), 55 DT1/FO (out), 56 TFS1/~{IRQ}1 (io), 57 RFS1/~{IRQ}0 (io), 58 GND (power), 59 DR1/FI (in), 60 SCLK1 (io), 61 ~{ERESET} (io), 62 ~{RESET} (in), 63 ~{EMS} (io), 64 EE (io), 65 ECLK (io), 66 ELOUT (io), 67 ELIN (io), 68 ~{EINT} (io), 69 ~{EBR} (io), 70 ~{BR} (in), 71 ~{EBG} (io), 72 ~{BG} (out), 73 VDD (power), 74 D0 (io), 75 D1 (io), 76 D2 (io), 77 D3 (io), 78 D4 (io), 79 GND (power), 80 D5 (io), 81 D6 (io), 82 D7 (io), 83 D8 (io), 84 D9 (io), 85 D10 (io), 86 D11 (io), 87 D12 (io), 88 D13 (io), 89 D14 (io), 90 GND (power), 91 VDD (power), 92 GND (power), 93 D15 (io), 94 D16 (io), 95 D17 (io), 96 D18 (io), 97 D19 (io), 98 D20 (io), 99 D21 (io), 100 D22 (io), 101 D23 (io), 102 GND (power), 103 ~{IWR} (in), 104 ~{IRD} (in), 105 IAD15 (io), 106 IAD14 (io), 107 IAD13 (io), 108 IAD12 (io), 109 IAD11 (io), 110 IAD10 (io), 111 IAD9 (io), 112 IAD8 (io), 113 IAD7 (io), 114 IAD6 (io), 115 VDD (power), 116 GND (power), 117 IAD5 (io), 118 IAD4 (io), 119 IAD3 (io), 120 IAD2 (io), 121 IAD1 (io), 122 IAD0 (io), 123 PF7 (io), 124 PF6 (io), 125 PF5 (io), 126 PF4 (io), 127 GND (power), 128 ~{IS} (in)

## ADSP-2183KST-133
designator U?
52 MIPS, 3.3V, 2 Serial Ports, Host Port, 80 KB RAM; Published: 24-Aug-2001; LatestRevisionDate: 13-Apr-2006; LatestRevisionNote: IPC-7351 Footprint Added.; DatasheetVersion: 2000; PackageVersion: 2000; PackageReference: ST-128; Publisher: Altium Limited; PackageDescription: 128-Pin Thin Quad Flat Pack Rectangular 0.5 mm Pitch; ComponentLink1Description: Manufacturer Link; ComponentLink1URL: http://www.analog.com/; ComponentLink2Description: Datasheet; ComponentLink2URL: http://www.analog.com/UploadedFiles/Data_Sheets/80782991212661535238810ADSP_2183_c.pdf
footprint ST-128_N (Thin QFP, 128-Leads, Body 20x14 mm, Pitch 0.5mm, IPC Medium Density)
footprint ST-128_L (Thin QFP, 128-Leads, Body 20x14 mm, Pitch 0.5mm, IPC High Density)
footprint ST-128_M (Thin QFP, 128-Leads, Body 20x14 mm, Pitch 0.5mm, IPC Low Density)
3D model 2183-ST128 (128-Pin Thin Quad Flat Pack Rectangular 0.5 mm Pitch)
pins: 1 IAL (in), 2 PF3 (io), 3 PF2 (io), 4 PF1 (io), 5 PF0 (io), 6 ~{WR} (out), 7 ~{RD} (out), 8 ~{IOMS} (out), 9 ~{BMS} (out), 10 ~{DMS} (out), 11 ~{CMS} (out), 12 GND (power), 13 VDD (power), 14 ~{PMS} (out), 15 A0 (out), 16 A1 (io), 17 A2 (io), 18 A3 (io), 19 A4 (io), 20 A5 (io), 21 A6 (io), 22 A7 (io), 23 XTAL (in), 24 CLKIN (in), 25 GND (power), 26 CLKOUT (out), 27 GND (power), 28 VDD (power), 29 A8 (io), 30 A9 (io), 31 A10 (io), 32 A11 (io), 33 A12 (io), 34 A13 (io), 35 ~{IRQE} (io), 36 MMAP (in), 37 ~{PWD} (in), 38 ~{IRQ}2 (io), 39 BMODE (in), 40 PWDACK (out), 41 ~{IACK} (out), 42 ~{BGH} (out), 43 VDD (power), 44 GND (power), 45 ~{IRQL}0 (io), 46 ~{IRQL}1 (io), 47 FL0 (out), 48 FL1 (out), 49 FL2 (out), 50 DT0 (out), 51 TFS0 (io), 52 RFS0 (io), 53 DR0 (in), 54 SCLK0 (io), 55 DT1/FO (out), 56 TFS1/~{IRQ}1 (io), 57 RFS1/~{IRQ}0 (io), 58 GND (power), 59 DR1/FI (in), 60 SCLK1 (io), 61 ~{ERESET} (io), 62 ~{RESET} (in), 63 ~{EMS} (io), 64 EE (io), 65 ECLK (io), 66 ELOUT (io), 67 ELIN (io), 68 ~{EINT} (io), 69 ~{EBR} (io), 70 ~{BR} (in), 71 ~{EBG} (io), 72 ~{BG} (out), 73 VDD (power), 74 D0 (io), 75 D1 (io), 76 D2 (io), 77 D3 (io), 78 D4 (io), 79 GND (power), 80 D5 (io), 81 D6 (io), 82 D7 (io), 83 D8 (io), 84 D9 (io), 85 D10 (io), 86 D11 (io), 87 D12 (io), 88 D13 (io), 89 D14 (io), 90 GND (power), 91 VDD (power), 92 GND (power), 93 D15 (io), 94 D16 (io), 95 D17 (io), 96 D18 (io), 97 D19 (io), 98 D20 (io), 99 D21 (io), 100 D22 (io), 101 D23 (io), 102 GND (power), 103 ~{IWR} (in), 104 ~{IRD} (in), 105 IAD15 (io), 106 IAD14 (io), 107 IAD13 (io), 108 IAD12 (io), 109 IAD11 (io), 110 IAD10 (io), 111 IAD9 (io), 112 IAD8 (io), 113 IAD7 (io), 114 IAD6 (io), 115 VDD (power), 116 GND (power), 117 IAD5 (io), 118 IAD4 (io), 119 IAD3 (io), 120 IAD2 (io), 121 IAD1 (io), 122 IAD0 (io), 123 PF7 (io), 124 PF6 (io), 125 PF5 (io), 126 PF4 (io), 127 GND (power), 128 ~{IS} (in)

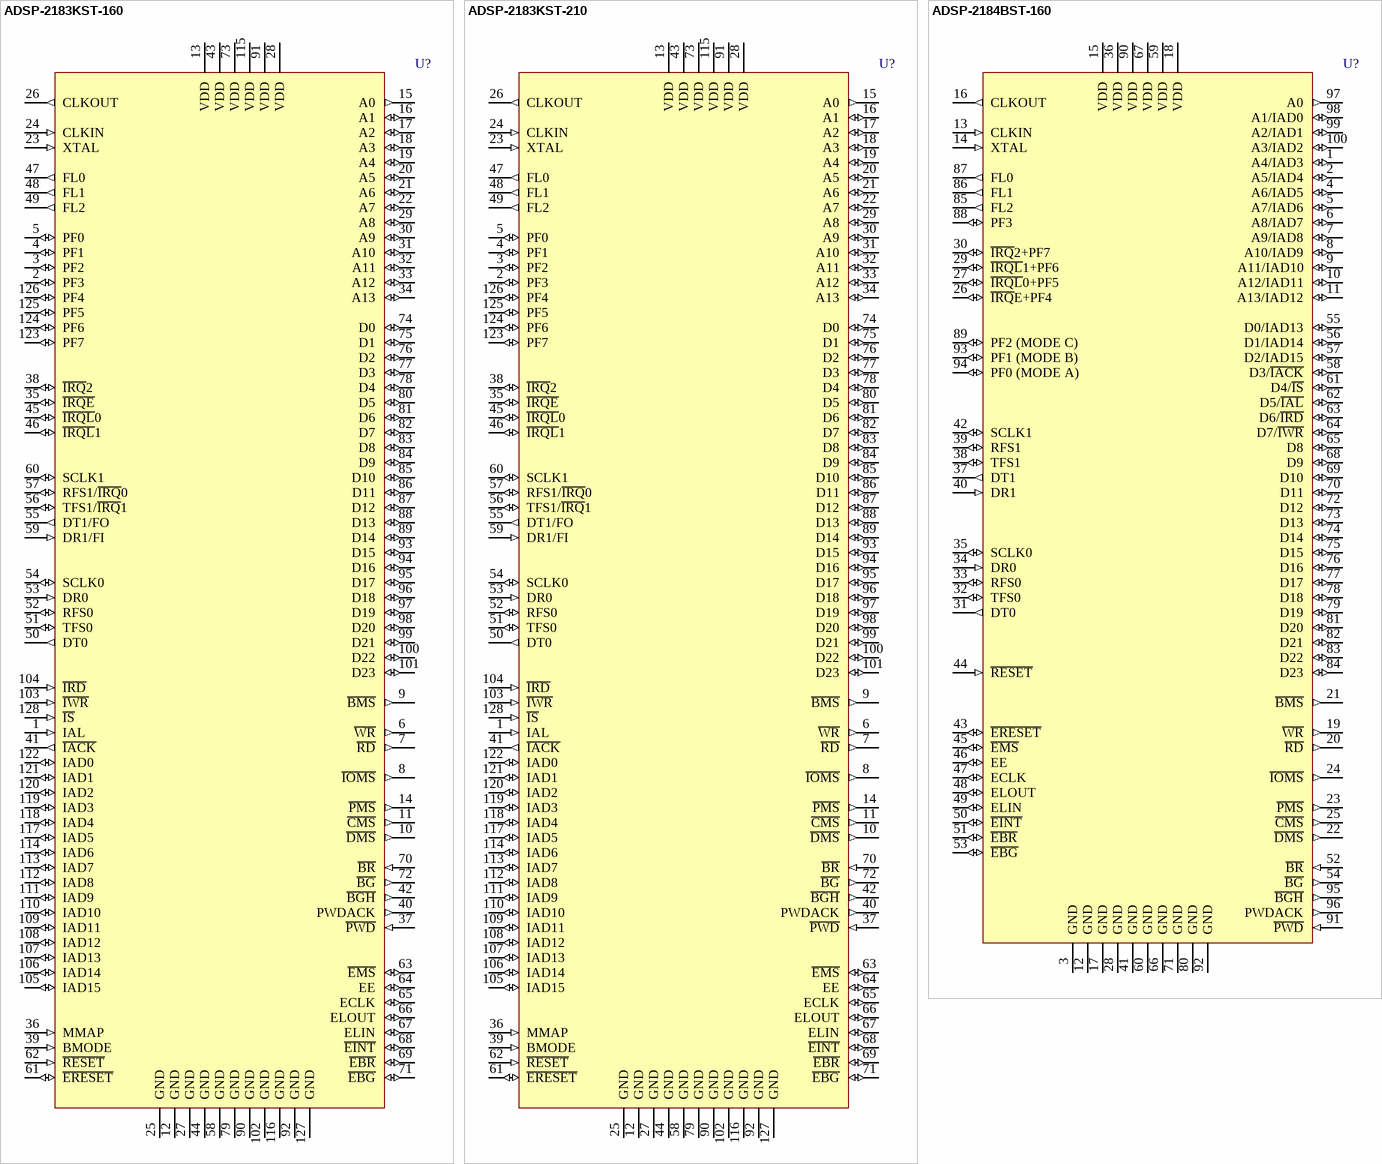
[diagram p30: symbols ADSP-2183KST-160 to ADSP-2184BST-160]

## ADSP-2183KST-160
designator U?
52 MIPS, 3.3V, 2 Serial Ports, Host Port, 80 KB RAM; Published: 24-Aug-2001; LatestRevisionDate: 13-Apr-2006; LatestRevisionNote: IPC-7351 Footprint Added.; DatasheetVersion: 2000; PackageVersion: 2000; PackageReference: ST-128; Publisher: Altium Limited; PackageDescription: 128-Pin Thin Quad Flat Pack Rectangular 0.5 mm Pitch; ComponentLink1Description: Manufacturer Link; ComponentLink1URL: http://www.analog.com/; ComponentLink2Description: Datasheet; ComponentLink2URL: http://www.analog.com/UploadedFiles/Data_Sheets/80782991212661535238810ADSP_2183_c.pdf
footprint ST-128_N (Thin QFP, 128-Leads, Body 20x14 mm, Pitch 0.5mm, IPC Medium Density)
footprint ST-128_L (Thin QFP, 128-Leads, Body 20x14 mm, Pitch 0.5mm, IPC High Density)
footprint ST-128_M (Thin QFP, 128-Leads, Body 20x14 mm, Pitch 0.5mm, IPC Low Density)
3D model 2183-ST128 (128-Pin Thin Quad Flat Pack Rectangular 0.5 mm Pitch)
pins: 1 IAL (in), 2 PF3 (io), 3 PF2 (io), 4 PF1 (io), 5 PF0 (io), 6 ~{WR} (out), 7 ~{RD} (out), 8 ~{IOMS} (out), 9 ~{BMS} (out), 10 ~{DMS} (out), 11 ~{CMS} (out), 12 GND (power), 13 VDD (power), 14 ~{PMS} (out), 15 A0 (out), 16 A1 (io), 17 A2 (io), 18 A3 (io), 19 A4 (io), 20 A5 (io), 21 A6 (io), 22 A7 (io), 23 XTAL (in), 24 CLKIN (in), 25 GND (power), 26 CLKOUT (out), 27 GND (power), 28 VDD (power), 29 A8 (io), 30 A9 (io), 31 A10 (io), 32 A11 (io), 33 A12 (io), 34 A13 (io), 35 ~{IRQE} (io), 36 MMAP (in), 37 ~{PWD} (in), 38 ~{IRQ}2 (io), 39 BMODE (in), 40 PWDACK (out), 41 ~{IACK} (out), 42 ~{BGH} (out), 43 VDD (power), 44 GND (power), 45 ~{IRQL}0 (io), 46 ~{IRQL}1 (io), 47 FL0 (out), 48 FL1 (out), 49 FL2 (out), 50 DT0 (out), 51 TFS0 (io), 52 RFS0 (io), 53 DR0 (in), 54 SCLK0 (io), 55 DT1/FO (out), 56 TFS1/~{IRQ}1 (io), 57 RFS1/~{IRQ}0 (io), 58 GND (power), 59 DR1/FI (in), 60 SCLK1 (io), 61 ~{ERESET} (io), 62 ~{RESET} (in), 63 ~{EMS} (io), 64 EE (io), 65 ECLK (io), 66 ELOUT (io), 67 ELIN (io), 68 ~{EINT} (io), 69 ~{EBR} (io), 70 ~{BR} (in), 71 ~{EBG} (io), 72 ~{BG} (out), 73 VDD (power), 74 D0 (io), 75 D1 (io), 76 D2 (io), 77 D3 (io), 78 D4 (io), 79 GND (power), 80 D5 (io), 81 D6 (io), 82 D7 (io), 83 D8 (io), 84 D9 (io), 85 D10 (io), 86 D11 (io), 87 D12 (io), 88 D13 (io), 89 D14 (io), 90 GND (power), 91 VDD (power), 92 GND (power), 93 D15 (io), 94 D16 (io), 95 D17 (io), 96 D18 (io), 97 D19 (io), 98 D20 (io), 99 D21 (io), 100 D22 (io), 101 D23 (io), 102 GND (power), 103 ~{IWR} (in), 104 ~{IRD} (in), 105 IAD15 (io), 106 IAD14 (io), 107 IAD13 (io), 108 IAD12 (io), 109 IAD11 (io), 110 IAD10 (io), 111 IAD9 (io), 112 IAD8 (io), 113 IAD7 (io), 114 IAD6 (io), 115 VDD (power), 116 GND (power), 117 IAD5 (io), 118 IAD4 (io), 119 IAD3 (io), 120 IAD2 (io), 121 IAD1 (io), 122 IAD0 (io), 123 PF7 (io), 124 PF6 (io), 125 PF5 (io), 126 PF4 (io), 127 GND (power), 128 ~{IS} (in)

## ADSP-2183KST-210
designator U?
52 MIPS, 3.3V, 2 Serial Ports, Host Port, 80 KB RAM; Published: 24-Aug-2001; LatestRevisionDate: 13-Apr-2006; LatestRevisionNote: IPC-7351 Footprint Added.; DatasheetVersion: 2000; PackageVersion: 2000; PackageReference: ST-128; Publisher: Altium Limited; PackageDescription: 128-Pin Thin Quad Flat Pack Rectangular 0.5 mm Pitch; ComponentLink1Description: Manufacturer Link; ComponentLink1URL: http://www.analog.com/; ComponentLink2Description: Datasheet; ComponentLink2URL: http://www.analog.com/UploadedFiles/Data_Sheets/80782991212661535238810ADSP_2183_c.pdf
footprint ST-128_N (Thin QFP, 128-Leads, Body 20x14 mm, Pitch 0.5mm, IPC Medium Density)
footprint ST-128_L (Thin QFP, 128-Leads, Body 20x14 mm, Pitch 0.5mm, IPC High Density)
footprint ST-128_M (Thin QFP, 128-Leads, Body 20x14 mm, Pitch 0.5mm, IPC Low Density)
3D model 2183-ST128 (128-Pin Thin Quad Flat Pack Rectangular 0.5 mm Pitch)
pins: 1 IAL (in), 2 PF3 (io), 3 PF2 (io), 4 PF1 (io), 5 PF0 (io), 6 ~{WR} (out), 7 ~{RD} (out), 8 ~{IOMS} (out), 9 ~{BMS} (out), 10 ~{DMS} (out), 11 ~{CMS} (out), 12 GND (power), 13 VDD (power), 14 ~{PMS} (out), 15 A0 (out), 16 A1 (io), 17 A2 (io), 18 A3 (io), 19 A4 (io), 20 A5 (io), 21 A6 (io), 22 A7 (io), 23 XTAL (in), 24 CLKIN (in), 25 GND (power), 26 CLKOUT (out), 27 GND (power), 28 VDD (power), 29 A8 (io), 30 A9 (io), 31 A10 (io), 32 A11 (io), 33 A12 (io), 34 A13 (io), 35 ~{IRQE} (io), 36 MMAP (in), 37 ~{PWD} (in), 38 ~{IRQ}2 (io), 39 BMODE (in), 40 PWDACK (out), 41 ~{IACK} (out), 42 ~{BGH} (out), 43 VDD (power), 44 GND (power), 45 ~{IRQL}0 (io), 46 ~{IRQL}1 (io), 47 FL0 (out), 48 FL1 (out), 49 FL2 (out), 50 DT0 (out), 51 TFS0 (io), 52 RFS0 (io), 53 DR0 (in), 54 SCLK0 (io), 55 DT1/FO (out), 56 TFS1/~{IRQ}1 (io), 57 RFS1/~{IRQ}0 (io), 58 GND (power), 59 DR1/FI (in), 60 SCLK1 (io), 61 ~{ERESET} (io), 62 ~{RESET} (in), 63 ~{EMS} (io), 64 EE (io), 65 ECLK (io), 66 ELOUT (io), 67 ELIN (io), 68 ~{EINT} (io), 69 ~{EBR} (io), 70 ~{BR} (in), 71 ~{EBG} (io), 72 ~{BG} (out), 73 VDD (power), 74 D0 (io), 75 D1 (io), 76 D2 (io), 77 D3 (io), 78 D4 (io), 79 GND (power), 80 D5 (io), 81 D6 (io), 82 D7 (io), 83 D8 (io), 84 D9 (io), 85 D10 (io), 86 D11 (io), 87 D12 (io), 88 D13 (io), 89 D14 (io), 90 GND (power), 91 VDD (power), 92 GND (power), 93 D15 (io), 94 D16 (io), 95 D17 (io), 96 D18 (io), 97 D19 (io), 98 D20 (io), 99 D21 (io), 100 D22 (io), 101 D23 (io), 102 GND (power), 103 ~{IWR} (in), 104 ~{IRD} (in), 105 IAD15 (io), 106 IAD14 (io), 107 IAD13 (io), 108 IAD12 (io), 109 IAD11 (io), 110 IAD10 (io), 111 IAD9 (io), 112 IAD8 (io), 113 IAD7 (io), 114 IAD6 (io), 115 VDD (power), 116 GND (power), 117 IAD5 (io), 118 IAD4 (io), 119 IAD3 (io), 120 IAD2 (io), 121 IAD1 (io), 122 IAD0 (io), 123 PF7 (io), 124 PF6 (io), 125 PF5 (io), 126 PF4 (io), 127 GND (power), 128 ~{IS} (in)

## ADSP-2184BST-160
designator U?
40 MIPS, 5V, 2 Serial Ports, Host Port, 20KB RAM; Published: 24-Aug-2001; LatestRevisionDate: 13-Apr-2006; LatestRevisionNote: IPC-7351 Footprint Added.; DatasheetVersion: 1999; PackageVersion: 2000; PackageReference: ST-100; Publisher: Altium Limited; PackageDescription: 100-Pin Thin Plastic Quad Flat Pack 0.5 mm Pitch; ComponentLink1Description: Manufacturer Link; ComponentLink1URL: http://www.analog.com/; ComponentLink2Description: Datasheet; ComponentLink2URL: http://www.analog.com/UploadedFiles/Data_Sheets/326029855799641502971432079624ADSP_2184_0.pdf
footprint ST-100_N (Thin QFP, 100-Leads, Body 14x14mm, Pitch 0.5mm, IPC Medium Density)
footprint ST-100_L (Thin QFP, 100-Leads, Body 14x14mm, Pitch 0.5mm, IPC High Density)
footprint ST-100_M (Thin QFP, 100-Leads, Body 14x14mm, Pitch 0.5mm, IPC Low Density)
3D model 2184-ST100 (100-Pin Thin Plastic Quad Flat Pack 0.5 mm Pitch)
pins: 1 A4/IAD3 (io), 2 A5/IAD4 (io), 3 GND (power), 4 A6/IAD5 (io), 5 A7/IAD6 (io), 6 A8/IAD7 (io), 7 A9/IAD8 (io), 8 A10/IAD9 (io), 9 A11/IAD10 (io), 10 A12/IAD11 (io), 11 A13/IAD12 (io), 12 GND (power), 13 CLKIN (in), 14 XTAL (in), 15 VDD (power), 16 CLKOUT (out), 17 GND (power), 18 VDD (power), 19 ~{WR} (out), 20 ~{RD} (out), 21 ~{BMS} (out), 22 ~{DMS} (out), 23 ~{PMS} (out), 24 ~{IOMS} (out), 25 ~{CMS} (out), 26 ~{IRQ}E+PF4 (io), 27 ~{IRQL}0+PF5 (io), 28 GND (power), 29 ~{IRQL}1+PF6 (io), 30 ~{IRQ}2+PF7 (io), 31 DT0 (out), 32 TFS0 (io), 33 RFS0 (io), 34 DR0 (in), 35 SCLK0 (io), 36 VDD (power), 37 DT1 (out), 38 TFS1 (io), 39 RFS1 (io), 40 DR1 (in), 41 GND (power), 42 SCLK1 (io), 43 ~{ERESET} (io), 44 ~{RESET} (in), 45 ~{EMS} (io), 46 EE (io), 47 ECLK (io), 48 ELOUT (io), 49 ELIN (io), 50 ~{EINT} (io), 51 ~{EBR} (io), 52 ~{BR} (in), 53 ~{EBG} (io), 54 ~{BG} (out), 55 D0/IAD13 (io), 56 D1/IAD14 (io), 57 D2/IAD15 (io), 58 D3/~{IACK} (io), 59 VDD (power), 60 GND (power), 61 D4/~{IS} (io), 62 D5/~{IAL} (io), 63 D6/~{IRD} (io), 64 D7/~{IWR} (io), 65 D8 (io), 66 GND (power), 67 VDD (power), 68 D9 (io), 69 D10 (io), 70 D11 (io), 71 GND (power), 72 D12 (io), 73 D13 (io), 74 D14 (io), 75 D15 (io), 76 D16 (io), 77 D17 (io), 78 D18 (io), 79 D19 (io), 80 GND (power), 81 D20 (io), 82 D21 (io), 83 D22 (io), 84 D23 (io), 85 FL2 (out), 86 FL1 (out), 87 FL0 (out), 88 PF3 (io), 89 PF2 (MODE C) (io), 90 VDD (power), 91 ~{PWD} (in), 92 GND (power), 93 PF1 (MODE B) (io), 94 PF0 (MODE A) (io), 95 ~{BGH} (out), 96 PWDACK (out), 97 A0 (out), 98 A1/IAD0 (io), 99 A2/IAD1 (io), 100 A3/IAD2 (io)

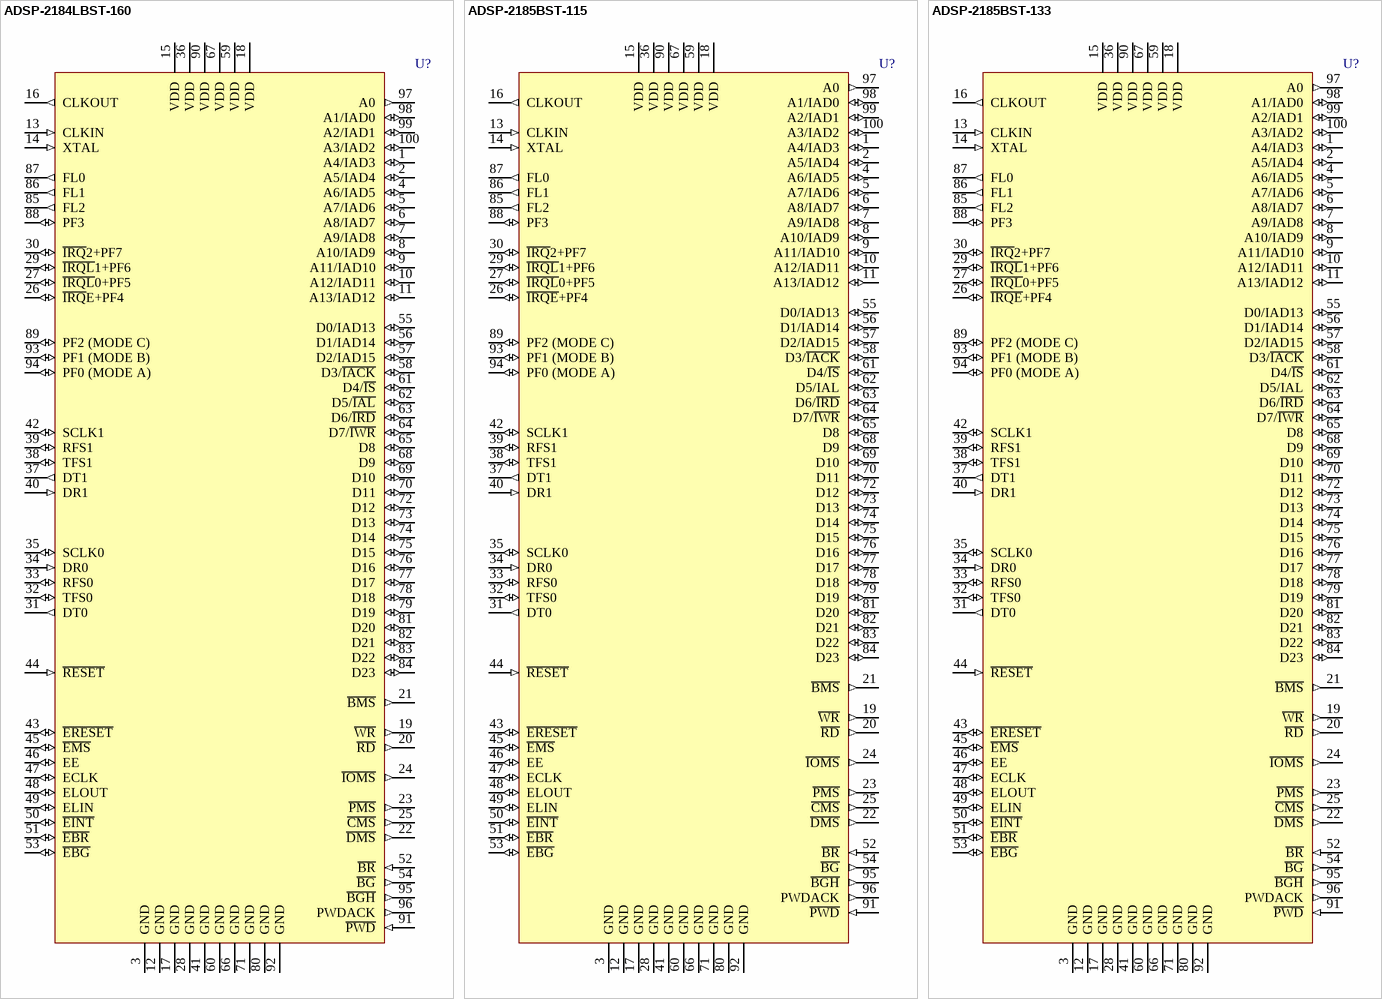
[diagram p31: symbols ADSP-2184LBST-160 to ADSP-2185BST-133]

## ADSP-2184LBST-160
designator U?
40 MIPS, 3.3V, 2 Serial Ports, Host Port, 20KB RAM; Published: 24-Aug-2001; LatestRevisionDate: 13-Apr-2006; LatestRevisionNote: IPC-7351 Footprint Added.; DatasheetVersion: 1999; PackageVersion: 2000; PackageReference: ST-100; Publisher: Altium Limited; PackageDescription: 100-Pin Thin Plastic Quad Flat Pack 0.5 mm Pitch; ComponentLink1Description: Manufacturer Link; ComponentLink1URL: http://www.analog.com/; ComponentLink2Description: Datasheet; ComponentLink2URL: http://www.analog.com/UploadedFiles/Data_Sheets/3518258122327694240351479ADSP_2184L_0.pdf
footprint ST-100_N (Thin QFP, 100-Leads, Body 14x14mm, Pitch 0.5mm, IPC Medium Density)
footprint ST-100_L (Thin QFP, 100-Leads, Body 14x14mm, Pitch 0.5mm, IPC High Density)
footprint ST-100_M (Thin QFP, 100-Leads, Body 14x14mm, Pitch 0.5mm, IPC Low Density)
3D model 2184L-ST100 (100-Pin Thin Plastic Quad Flat Pack 0.5 mm Pitch)
pins: 1 A4/IAD3 (io), 2 A5/IAD4 (io), 3 GND (power), 4 A6/IAD5 (io), 5 A7/IAD6 (io), 6 A8/IAD7 (io), 7 A9/IAD8 (io), 8 A10/IAD9 (io), 9 A11/IAD10 (io), 10 A12/IAD11 (io), 11 A13/IAD12 (io), 12 GND (power), 13 CLKIN (in), 14 XTAL (in), 15 VDD (power), 16 CLKOUT (out), 17 GND (power), 18 VDD (power), 19 ~{WR} (out), 20 ~{RD} (out), 21 ~{BMS} (out), 22 ~{DMS} (out), 23 ~{PMS} (out), 24 ~{IOMS} (out), 25 ~{CMS} (out), 26 ~{IRQ}E+PF4 (io), 27 ~{IRQL}0+PF5 (io), 28 GND (power), 29 ~{IRQL}1+PF6 (io), 30 ~{IRQ}2+PF7 (io), 31 DT0 (out), 32 TFS0 (io), 33 RFS0 (io), 34 DR0 (in), 35 SCLK0 (io), 36 VDD (power), 37 DT1 (out), 38 TFS1 (io), 39 RFS1 (io), 40 DR1 (in), 41 GND (power), 42 SCLK1 (io), 43 ~{ERESET} (io), 44 ~{RESET} (in), 45 ~{EMS} (io), 46 EE (io), 47 ECLK (io), 48 ELOUT (io), 49 ELIN (io), 50 ~{EINT} (io), 51 ~{EBR} (io), 52 ~{BR} (in), 53 ~{EBG} (io), 54 ~{BG} (out), 55 D0/IAD13 (io), 56 D1/IAD14 (io), 57 D2/IAD15 (io), 58 D3/~{IACK} (io), 59 VDD (power), 60 GND (power), 61 D4/~{IS} (io), 62 D5/~{IAL} (io), 63 D6/~{IRD} (io), 64 D7/~{IWR} (io), 65 D8 (io), 66 GND (power), 67 VDD (power), 68 D9 (io), 69 D10 (io), 70 D11 (io), 71 GND (power), 72 D12 (io), 73 D13 (io), 74 D14 (io), 75 D15 (io), 76 D16 (io), 77 D17 (io), 78 D18 (io), 79 D19 (io), 80 GND (power), 81 D20 (io), 82 D21 (io), 83 D22 (io), 84 D23 (io), 85 FL2 (out), 86 FL1 (out), 87 FL0 (out), 88 PF3 (io), 89 PF2 (MODE C) (io), 90 VDD (power), 91 ~{PWD} (in), 92 GND (power), 93 PF1 (MODE B) (io), 94 PF0 (MODE A) (io), 95 ~{BGH} (out), 96 PWDACK (out), 97 A0 (out), 98 A1/IAD0 (io), 99 A2/IAD1 (io), 100 A3/IAD2 (io)

## ADSP-2185BST-115
designator U?
33 MIPS, 5V, 2 Serial Ports, Host Port, 80 KB RAM; Published: 24-Aug-2001; LatestRevisionDate: 13-Apr-2006; LatestRevisionNote: IPC-7351 Footprint Added.; DatasheetVersion: 1997; PackageVersion: 2000; PackageReference: ST-100; Publisher: Altium Limited; PackageDescription: 100-Pin Thin Plastic Quad Flat Pack 0.5 mm Pitch; ComponentLink1Description: Manufacturer Link; ComponentLink1URL: http://www.analog.com/
footprint ST-100_N (Thin QFP, 100-Leads, Body 14x14mm, Pitch 0.5mm, IPC Medium Density)
footprint ST-100_L (Thin QFP, 100-Leads, Body 14x14mm, Pitch 0.5mm, IPC High Density)
footprint ST-100_M (Thin QFP, 100-Leads, Body 14x14mm, Pitch 0.5mm, IPC Low Density)
3D model 2185-ST100 (100-Pin Thin Plastic Quad Flat Pack 0.5 mm Pitch)
pins: 1 A4/IAD3 (io), 2 A5/IAD4 (io), 3 GND (power), 4 A6/IAD5 (io), 5 A7/IAD6 (io), 6 A8/IAD7 (io), 7 A9/IAD8 (io), 8 A10/IAD9 (io), 9 A11/IAD10 (io), 10 A12/IAD11 (io), 11 A13/IAD12 (io), 12 GND (power), 13 CLKIN (in), 14 XTAL (in), 15 VDD (power), 16 CLKOUT (out), 17 GND (power), 18 VDD (power), 19 ~{WR} (out), 20 ~{RD} (out), 21 ~{BMS} (out), 22 ~{DMS} (out), 23 ~{PMS} (out), 24 ~{IOMS} (out), 25 ~{CMS} (out), 26 ~{IRQE}+PF4 (io), 27 ~{IRQL}0+PF5 (io), 28 GND (power), 29 ~{IRQL}1+PF6 (io), 30 ~{IRQ}2+PF7 (io), 31 DT0 (out), 32 TFS0 (io), 33 RFS0 (io), 34 DR0 (in), 35 SCLK0 (io), 36 VDD (power), 37 DT1 (out), 38 TFS1 (io), 39 RFS1 (io), 40 DR1 (in), 41 GND (power), 42 SCLK1 (io), 43 ~{ERESET} (io), 44 ~{RESET} (in), 45 ~{EMS} (io), 46 EE (io), 47 ECLK (io), 48 ELOUT (io), 49 ELIN (io), 50 ~{EINT} (io), 51 ~{EBR} (io), 52 ~{BR} (in), 53 ~{EBG} (io), 54 ~{BG} (out), 55 D0/IAD13 (io), 56 D1/IAD14 (io), 57 D2/IAD15 (io), 58 D3/~{IACK} (io), 59 VDD (power), 60 GND (power), 61 D4/~{IS} (io), 62 D5/IAL (io), 63 D6/~{IRD} (io), 64 D7/~{IWR} (io), 65 D8 (io), 66 GND (power), 67 VDD (power), 68 D9 (io), 69 D10 (io), 70 D11 (io), 71 GND (power), 72 D12 (io), 73 D13 (io), 74 D14 (io), 75 D15 (io), 76 D16 (io), 77 D17 (io), 78 D18 (io), 79 D19 (io), 80 GND (power), 81 D20 (io), 82 D21 (io), 83 D22 (io), 84 D23 (io), 85 FL2 (out), 86 FL1 (out), 87 FL0 (out), 88 PF3 (io), 89 PF2 (MODE C) (io), 90 VDD (power), 91 ~{PWD} (in), 92 GND (power), 93 PF1 (MODE B) (io), 94 PF0 (MODE A) (io), 95 ~{BGH} (out), 96 PWDACK (out), 97 A0 (out), 98 A1/IAD0 (io), 99 A2/IAD1 (io), 100 A3/IAD2 (io)

## ADSP-2185BST-133
designator U?
33 MIPS, 5V, 2 Serial Ports, Host Port, 80 KB RAM; Published: 24-Aug-2001; LatestRevisionDate: 13-Apr-2006; LatestRevisionNote: IPC-7351 Footprint Added.; DatasheetVersion: 1997; PackageVersion: 2000; PackageReference: ST-100; Publisher: Altium Limited; PackageDescription: 100-Pin Thin Plastic Quad Flat Pack 0.5 mm Pitch; ComponentLink1Description: Manufacturer Link; ComponentLink1URL: http://www.analog.com/
footprint ST-100_N (Thin QFP, 100-Leads, Body 14x14mm, Pitch 0.5mm, IPC Medium Density)
footprint ST-100_L (Thin QFP, 100-Leads, Body 14x14mm, Pitch 0.5mm, IPC High Density)
footprint ST-100_M (Thin QFP, 100-Leads, Body 14x14mm, Pitch 0.5mm, IPC Low Density)
3D model 2185-ST100 (100-Pin Thin Plastic Quad Flat Pack 0.5 mm Pitch)
pins: 1 A4/IAD3 (io), 2 A5/IAD4 (io), 3 GND (power), 4 A6/IAD5 (io), 5 A7/IAD6 (io), 6 A8/IAD7 (io), 7 A9/IAD8 (io), 8 A10/IAD9 (io), 9 A11/IAD10 (io), 10 A12/IAD11 (io), 11 A13/IAD12 (io), 12 GND (power), 13 CLKIN (in), 14 XTAL (in), 15 VDD (power), 16 CLKOUT (out), 17 GND (power), 18 VDD (power), 19 ~{WR} (out), 20 ~{RD} (out), 21 ~{BMS} (out), 22 ~{DMS} (out), 23 ~{PMS} (out), 24 ~{IOMS} (out), 25 ~{CMS} (out), 26 ~{IRQE}+PF4 (io), 27 ~{IRQL}0+PF5 (io), 28 GND (power), 29 ~{IRQL}1+PF6 (io), 30 ~{IRQ}2+PF7 (io), 31 DT0 (out), 32 TFS0 (io), 33 RFS0 (io), 34 DR0 (in), 35 SCLK0 (io), 36 VDD (power), 37 DT1 (out), 38 TFS1 (io), 39 RFS1 (io), 40 DR1 (in), 41 GND (power), 42 SCLK1 (io), 43 ~{ERESET} (io), 44 ~{RESET} (in), 45 ~{EMS} (io), 46 EE (io), 47 ECLK (io), 48 ELOUT (io), 49 ELIN (io), 50 ~{EINT} (io), 51 ~{EBR} (io), 52 ~{BR} (in), 53 ~{EBG} (io), 54 ~{BG} (out), 55 D0/IAD13 (io), 56 D1/IAD14 (io), 57 D2/IAD15 (io), 58 D3/~{IACK} (io), 59 VDD (power), 60 GND (power), 61 D4/~{IS} (io), 62 D5/IAL (io), 63 D6/~{IRD} (io), 64 D7/~{IWR} (io), 65 D8 (io), 66 GND (power), 67 VDD (power), 68 D9 (io), 69 D10 (io), 70 D11 (io), 71 GND (power), 72 D12 (io), 73 D13 (io), 74 D14 (io), 75 D15 (io), 76 D16 (io), 77 D17 (io), 78 D18 (io), 79 D19 (io), 80 GND (power), 81 D20 (io), 82 D21 (io), 83 D22 (io), 84 D23 (io), 85 FL2 (out), 86 FL1 (out), 87 FL0 (out), 88 PF3 (io), 89 PF2 (MODE C) (io), 90 VDD (power), 91 ~{PWD} (in), 92 GND (power), 93 PF1 (MODE B) (io), 94 PF0 (MODE A) (io), 95 ~{BGH} (out), 96 PWDACK (out), 97 A0 (out), 98 A1/IAD0 (io), 99 A2/IAD1 (io), 100 A3/IAD2 (io)

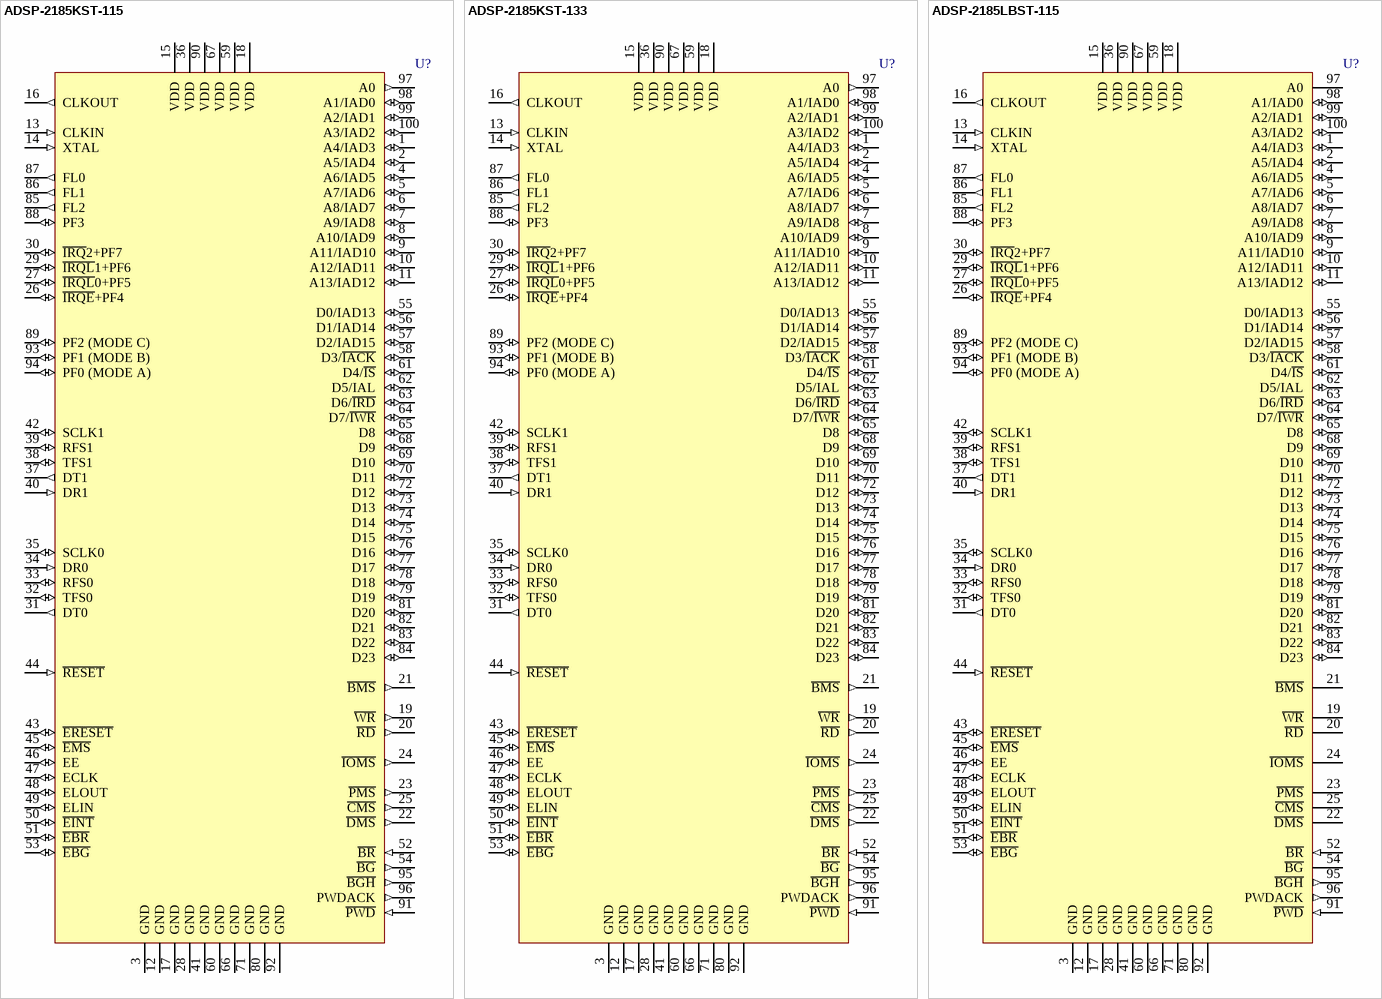
[diagram p32: symbols ADSP-2185KST-115 to ADSP-2185LBST-115]